# Altium schematic symbol library GD32 MCU.SchLib: 107 symbols (part 2 of 3)
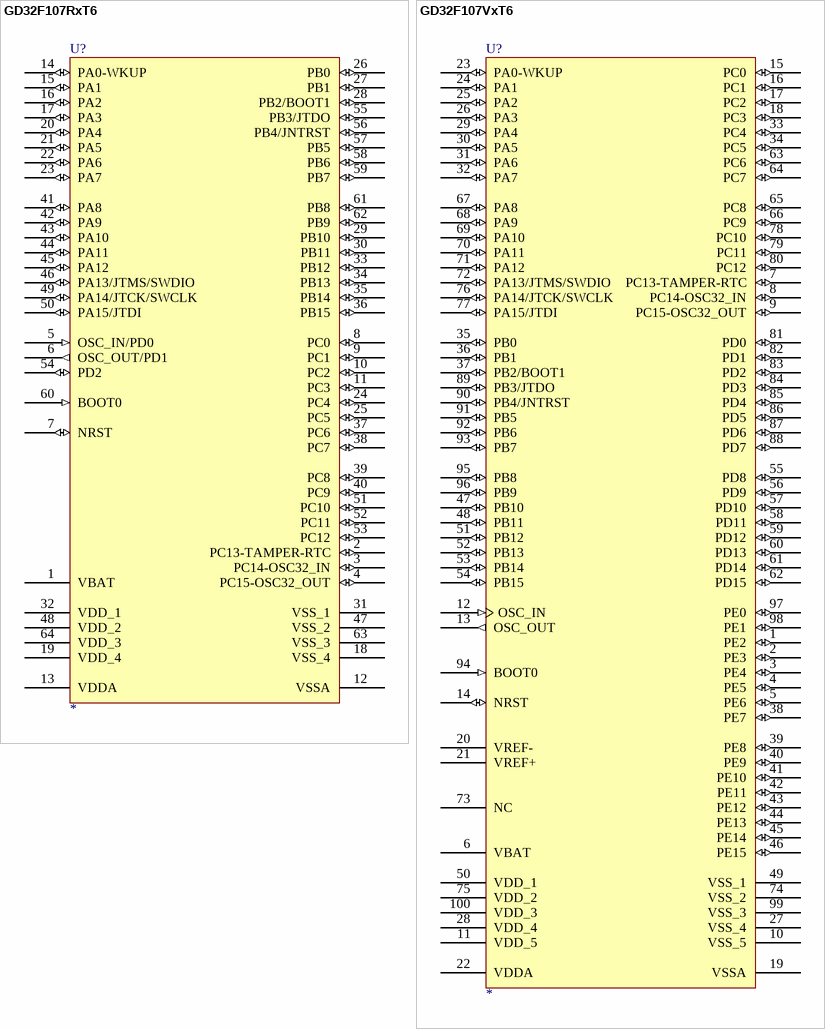
[diagram p34: symbols GD32F107RxT6 to GD32F107VxT6]

## GD32F107VxT6
designator U?
Published: *; DatasheetVersion: *; PackageVersion: *; PackageReference: *; Publisher: *; PackageDescription: *; ComponentLink1Description: *; ComponentLink1URL: *; ComponentLink2Description: *; ComponentLink2URL: *
footprint LQFP-100
pins: 1 PE2 (io), 2 PE3 (io), 3 PE4 (io), 4 PE5 (io), 5 PE6 (io), 6 VBAT (power), 7 PC13-TAMPER-RTC (io), 8 PC14-OSC32_IN (io), 9 PC15-OSC32_OUT (io), 10 VSS_5 (power), 11 VDD_5 (power), 12 OSC_IN (in), 13 OSC_OUT (out), 14 NRST (io), 15 PC0 (io), 16 PC1 (io), 17 PC2 (io), 18 PC3 (io), 19 VSSA (power), 20 VREF- (power), 21 VREF+ (power), 22 VDDA (power), 23 PA0-WKUP (io), 24 PA1 (io), 25 PA2 (io), 26 PA3 (io), 27 VSS_4 (power), 28 VDD_4 (power), 29 PA4 (io), 30 PA5 (io), 31 PA6 (io), 32 PA7 (io), 33 PC4 (io), 34 PC5 (io), 35 PB0 (io), 36 PB1 (io), 37 PB2/BOOT1 (io), 38 PE7 (io), 39 PE8 (io), 40 PE9 (io), 41 PE10 (io), 42 PE11 (io), 43 PE12 (io), 44 PE13 (io), 45 PE14 (io), 46 PE15 (io), 47 PB10 (io), 48 PB11 (io), 49 VSS_1 (power), 50 VDD_1 (power), 51 PB12 (io), 52 PB13 (io), 53 PB14 (io), 54 PB15 (io), 55 PD8 (io), 56 PD9 (io), 57 PD10 (io), 58 PD11 (io), 59 PD12 (io), 60 PD13 (io), 61 PD14 (io), 62 PD15 (io), 63 PC6 (io), 64 PC7 (io), 65 PC8 (io), 66 PC9 (io), 67 PA8 (io), 68 PA9 (io), 69 PA10 (io), 70 PA11 (io), 71 PA12 (io), 72 PA13/JTMS/SWDIO (io), 73 NC, 74 VSS_2 (power), 75 VDD_2 (power), 76 PA14/JTCK/SWCLK (io), 77 PA15/JTDI (io), 78 PC10 (io), 79 PC11 (io), 80 PC12 (io), 81 PD0 (io), 82 PD1 (io), 83 PD2 (io), 84 PD3 (io), 85 PD4 (io), 86 PD5 (io), 87 PD6 (io), 88 PD7 (io), 89 PB3/JTDO (io), 90 PB4/JNTRST (io), 91 PB5 (io), 92 PB6 (io), 93 PB7 (io), 94 BOOT0 (in), 95 PB8 (io), 96 PB9 (io), 97 PE0 (io), 98 PE1 (io), 99 VSS_3 (power), 100 VDD_3 (power)
2 alternate drawings of the same symbol

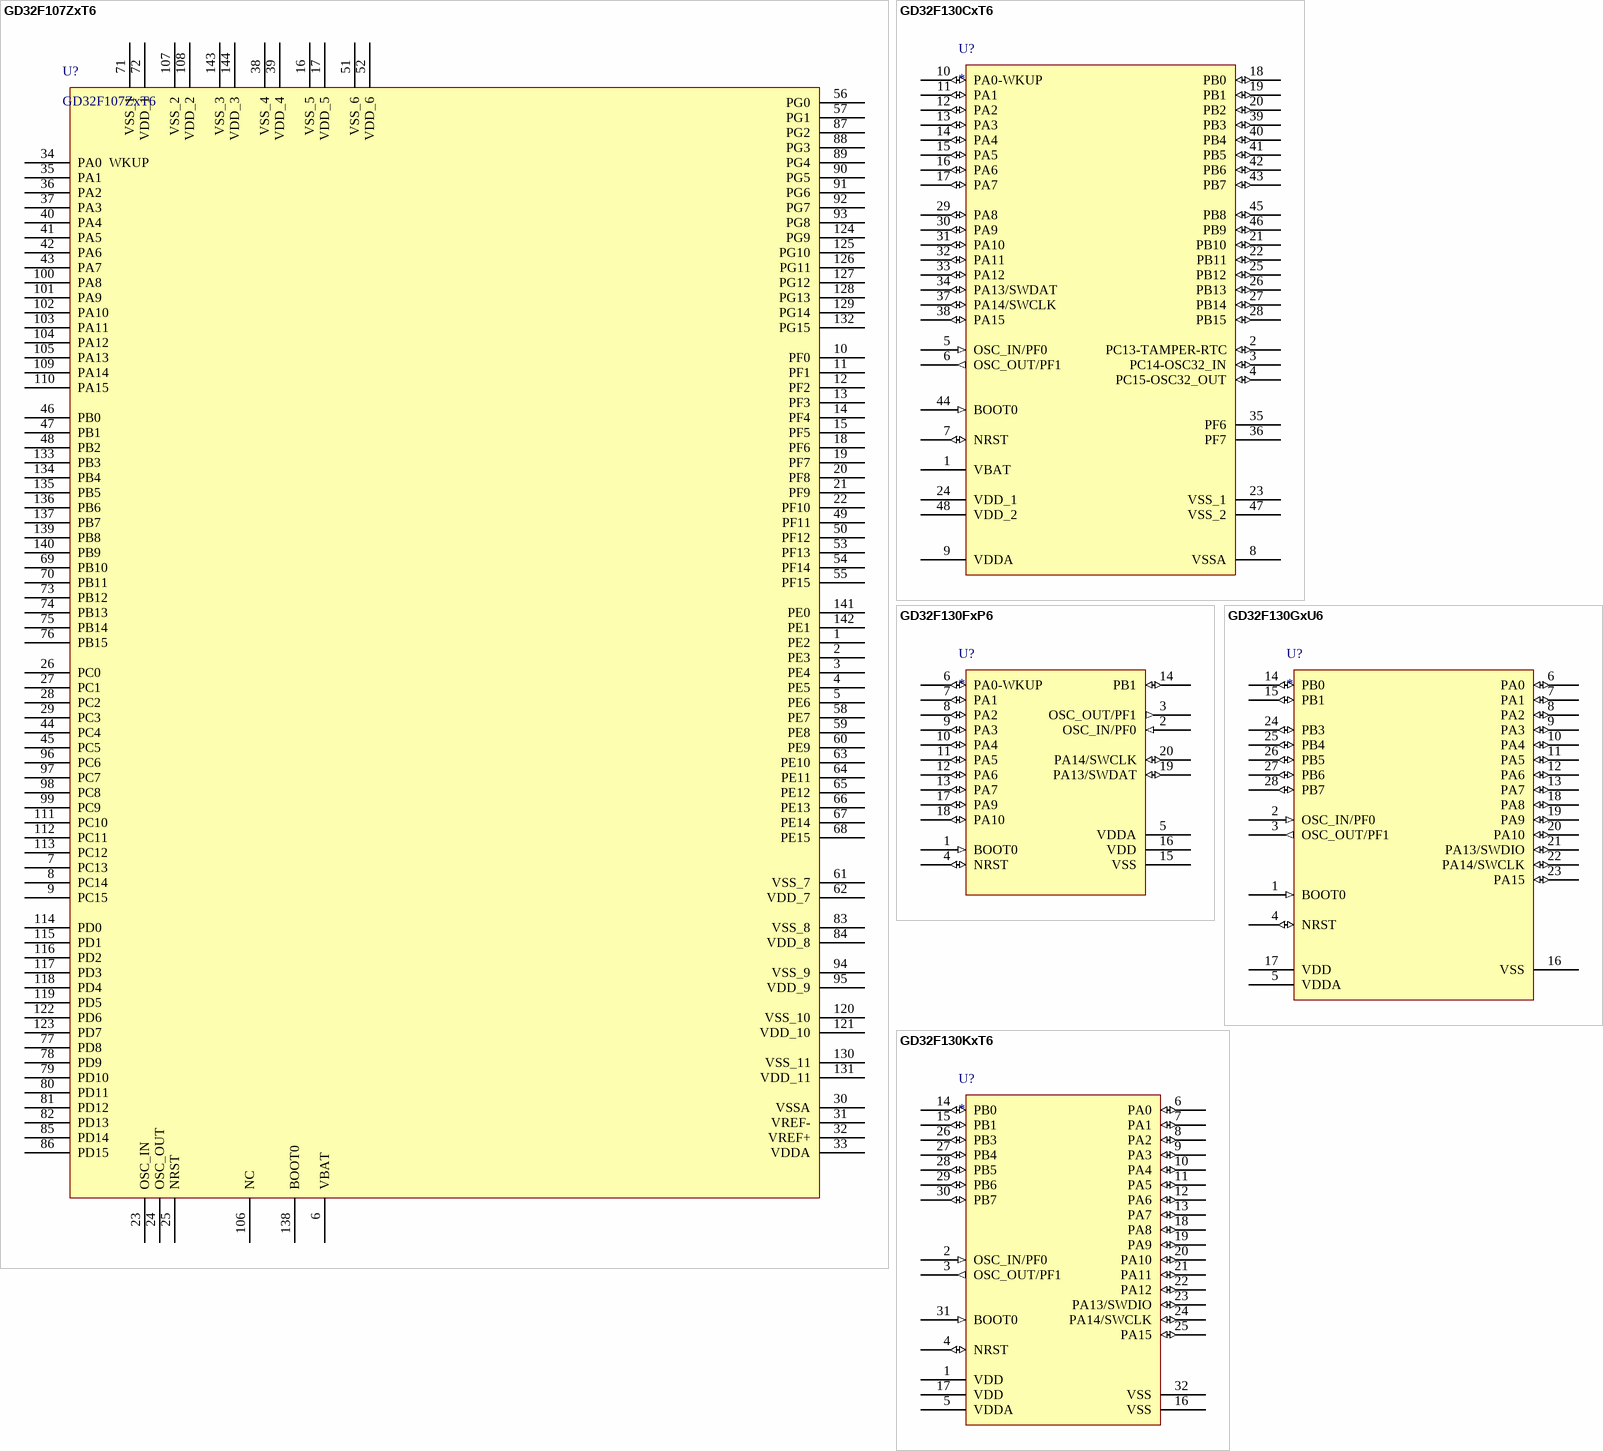
[diagram p12: symbols GD32F107ZxT6 to GD32F130KxT6]

## GD32F107ZxT6
designator U?
footprint LQFP144
pins: 1 PE2, 2 PE3, 3 PE4, 4 PE5, 5 PE6, 6 VBAT, 7 PC13, 8 PC14, 9 PC15, 10 PF0, 11 PF1, 12 PF2, 13 PF3, 14 PF4, 15 PF5, 16 VSS_5, 17 VDD_5, 18 PF6, 19 PF7, 20 PF8, 21 PF9, 22 PF10, 23 OSC_IN, 24 OSC_OUT, 25 NRST, 26 PC0, 27 PC1, 28 PC2, 29 PC3, 30 VSSA, 31 VREF-, 32 VREF+, 33 VDDA, 34 PA0  WKUP , 35 PA1, 36 PA2, 37 PA3 , 38 VSS_4, 39 VDD_4, 40 PA4, 41 PA5, 42 PA6, 43 PA7, 44 PC4, 45 PC5, 46 PB0, 47 PB1, 48 PB2, 49 PF11, 50 PF12, 51 VSS_6, 52 VDD_6, 53 PF13, 54 PF14, 55 PF15, 56 PG0, 57 PG1, 58 PE7, 59 PE8, 60 PE9, 61 VSS_7, 62 VDD_7, 63 PE10, 64 PE11, 65 PE12, 66 PE13, 67 PE14, 68 PE15, 69 PB10, 70 PB11, 71 VSS_1, 72 VDD_1, 73 PB12, 74 PB13, 75 PB14, 76 PB15, 77 PD8, 78 PD9, 79 PD10, 80 PD11, 81 PD12, 82 PD13, 83 VSS_8, 84 VDD_8, 85 PD14, 86 PD15, 87 PG2, 88 PG3, 89 PG4, 90 PG5, 91 PG6, 92 PG7, 93 PG8, 94 VSS_9, 95 VDD_9, 96 PC6, 97 PC7, 98 PC8, 99 PC9, 100 PA8, 101 PA9, 102 PA10, 103 PA11, 104 PA12, 105 PA13, 106 NC, 107 VSS_2, 108 VDD_2, 109 PA14, 110 PA15, 111 PC10, 112 PC11, 113 PC12, 114 PD0, 115 PD1, 116 PD2, 117 PD3, 118 PD4, 119 PD5, 120 VSS_10, 121 VDD_10, 122 PD6, 123 PD7, 124 PG9, 125 PG10, 126 PG11, 127 PG12, 128 PG13, 129 PG14, 130 VSS_11, 131 VDD_11, 132 PG15, 133 PB3, 134 PB4, 135 PB5, 136 PB6, 137 PB7, 138 BOOT0, 139 PB8, 140 PB9, 141 PE0, 142 PE1, 143 VSS_3, 144 VDD_3

## GD32F130CxT6
designator U?
footprint LQFP-48
pins: 1 VBAT (power), 2 PC13-TAMPER-RTC (io), 3 PC14-OSC32_IN (io), 4 PC15-OSC32_OUT (io), 5 OSC_IN/PF0 (in), 6 OSC_OUT/PF1 (out), 7 NRST (io), 8 VSSA (power), 9 VDDA (power), 10 PA0-WKUP (io), 11 PA1 (io), 12 PA2 (io), 13 PA3 (io), 14 PA4 (io), 15 PA5 (io), 16 PA6 (io), 17 PA7 (io), 18 PB0 (io), 19 PB1 (io), 20 PB2 (io), 21 PB10 (io), 22 PB11 (io), 23 VSS_1 (power), 24 VDD_1 (power), 25 PB12 (io), 26 PB13 (io), 27 PB14 (io), 28 PB15 (io), 29 PA8 (io), 30 PA9 (io), 31 PA10 (io), 32 PA11 (io), 33 PA12 (io), 34 PA13/SWDAT (io), 35 PF6 (power), 36 PF7 (power), 37 PA14/SWCLK (io), 38 PA15 (io), 39 PB3 (io), 40 PB4 (io), 41 PB5 (io), 42 PB6 (io), 43 PB7 (io), 44 BOOT0 (in), 45 PB8 (io), 46 PB9 (io), 47 VSS_2 (power), 48 VDD_2 (power)

## GD32F130FxP6
designator U?
pins: 1 BOOT0 (in), 2 OSC_IN/PF0 (in), 3 OSC_OUT/PF1 (out), 4 NRST (io), 5 VDDA (power), 6 PA0-WKUP (io), 7 PA1 (io), 8 PA2 (io), 9 PA3 (io), 10 PA4 (io), 11 PA5 (io), 12 PA6 (io), 13 PA7 (io), 14 PB1 (io), 15 VSS (power), 16 VDD (power), 17 PA9 (io), 18 PA10 (io), 19 PA13/SWDAT (io), 20 PA14/SWCLK (io)

## GD32F130GxU6
designator U?
footprint QFN28
pins: 1 BOOT0 (in), 2 OSC_IN/PF0 (in), 3 OSC_OUT/PF1 (out), 4 NRST (io), 5 VDDA (power), 6 PA0 (io), 7 PA1 (io), 8 PA2 (io), 9 PA3 (io), 10 PA4 (io), 11 PA5 (io), 12 PA6 (io), 13 PA7 (io), 14 PB0 (io), 15 PB1 (io), 16 VSS (power), 17 VDD (power), 18 PA8 (io), 19 PA9 (io), 20 PA10 (io), 21 PA13/SWDIO (io), 22 PA14/SWCLK (io), 23 PA15 (io), 24 PB3 (io), 25 PB4 (io), 26 PB5 (io), 27 PB6 (io), 28 PB7 (io)

## GD32F130KxT6
designator U?
footprint qfn28
footprint lqfp32
pins: 1 VDD (power), 2 OSC_IN/PF0 (in), 3 OSC_OUT/PF1 (out), 4 NRST (io), 5 VDDA (power), 6 PA0 (io), 7 PA1 (io), 8 PA2 (io), 9 PA3 (io), 10 PA4 (io), 11 PA5 (io), 12 PA6 (io), 13 PA7 (io), 14 PB0 (io), 15 PB1 (io), 16 VSS (power), 17 VDD (power), 18 PA8 (io), 19 PA9 (io), 20 PA10 (io), 21 PA11 (io), 22 PA12 (io), 23 PA13/SWDIO (io), 24 PA14/SWCLK (io), 25 PA15 (io), 26 PB3 (io), 27 PB4 (io), 28 PB5 (io), 29 PB6 (io), 30 PB7 (io), 31 BOOT0 (in), 32 VSS (power)

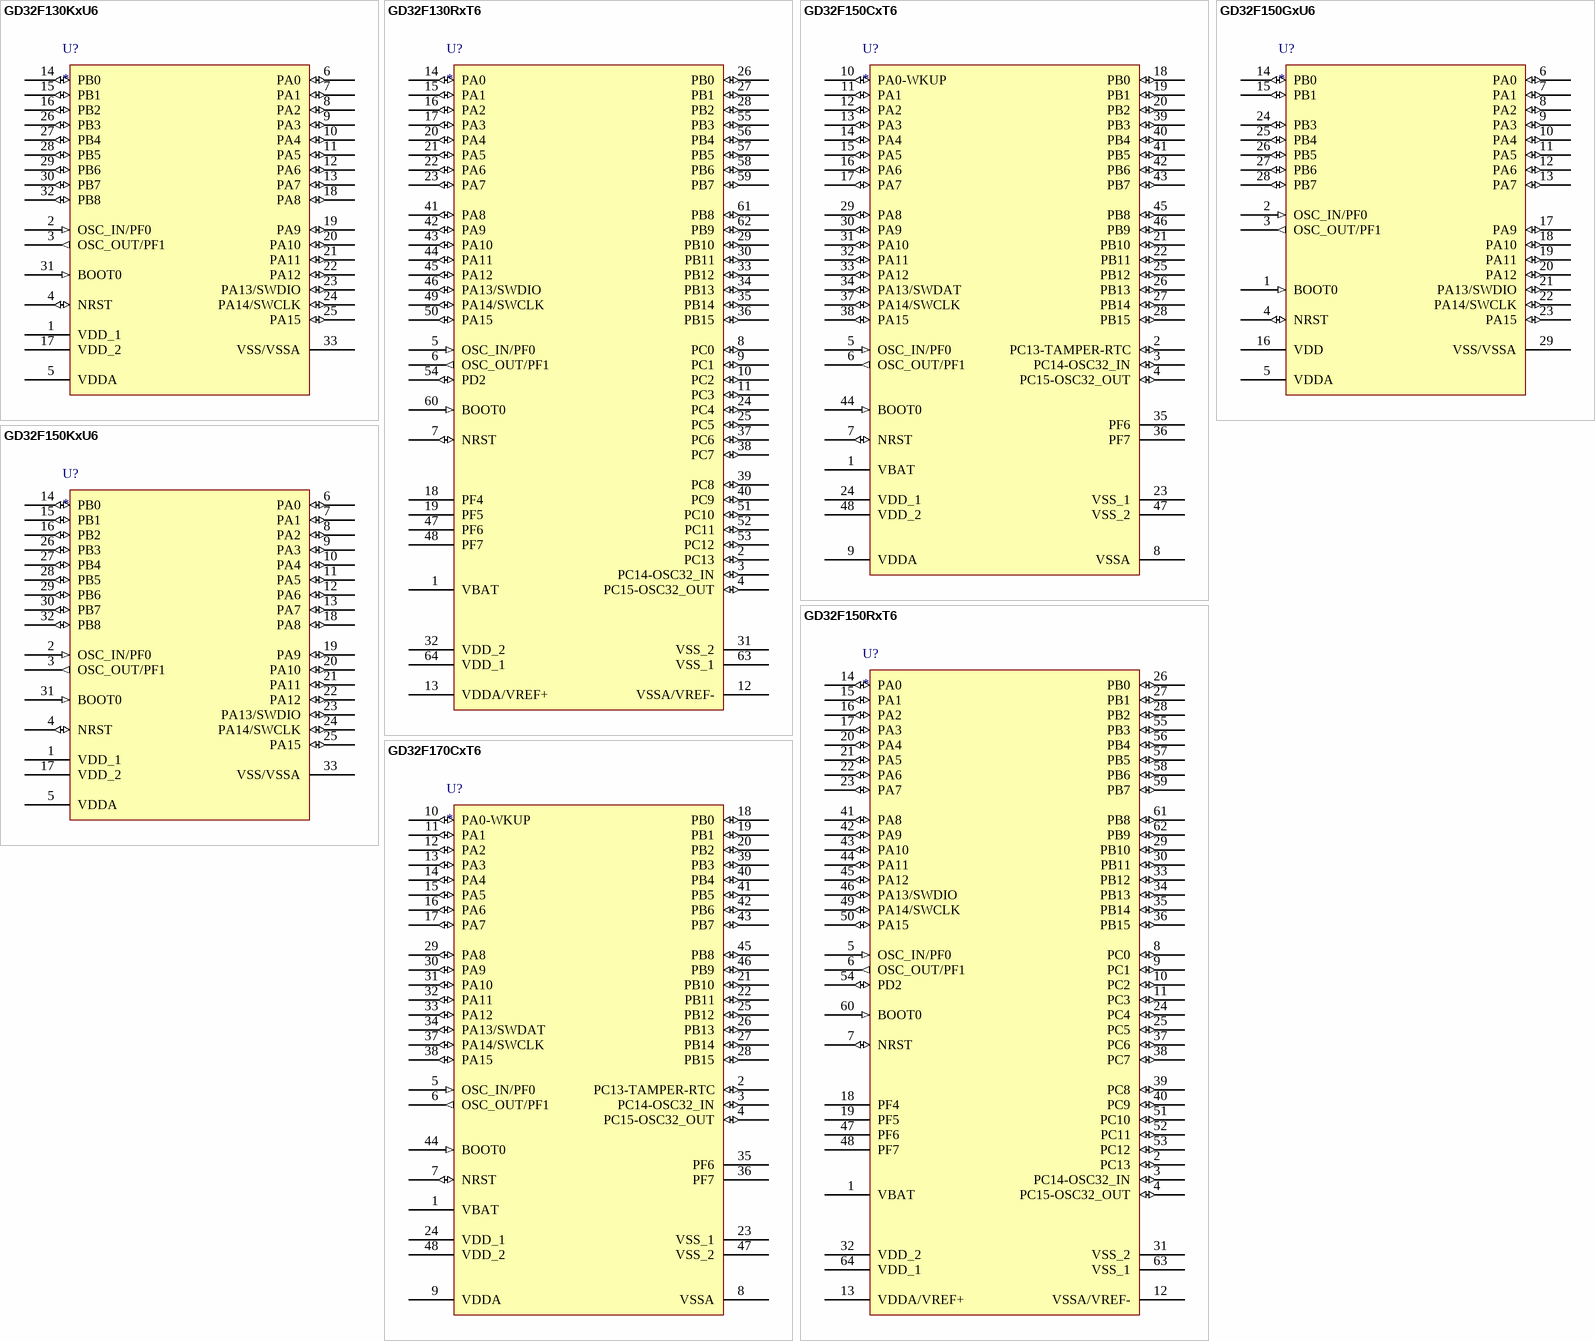
[diagram p13: symbols GD32F130KxU6 to GD32F170CxT6]

## GD32F130KxU6
designator U?
footprint qfn28
footprint QFN32 (Footprint not found)
pins: 1 VDD_1 (power), 2 OSC_IN/PF0 (in), 3 OSC_OUT/PF1 (out), 4 NRST (io), 5 VDDA (power), 6 PA0 (io), 7 PA1 (io), 8 PA2 (io), 9 PA3 (io), 10 PA4 (io), 11 PA5 (io), 12 PA6 (io), 13 PA7 (io), 14 PB0 (io), 15 PB1 (io), 16 PB2 (io), 17 VDD_2 (power), 18 PA8 (io), 19 PA9 (io), 20 PA10 (io), 21 PA11 (io), 22 PA12 (io), 23 PA13/SWDIO (io), 24 PA14/SWCLK (io), 25 PA15 (io), 26 PB3 (io), 27 PB4 (io), 28 PB5 (io), 29 PB6 (io), 30 PB7 (io), 31 BOOT0 (in), 32 PB8 (io), 33 VSS/VSSA (power)

## GD32F130RxT6
designator U?
footprint LQFP-64
pins: 1 VBAT (power), 2 PC13 (io), 3 PC14-OSC32_IN (io), 4 PC15-OSC32_OUT (io), 5 OSC_IN/PF0 (in), 6 OSC_OUT/PF1 (out), 7 NRST (io), 8 PC0 (io), 9 PC1 (io), 10 PC2 (io), 11 PC3 (io), 12 VSSA/VREF- (power), 13 VDDA/VREF+ (power), 14 PA0 (io), 15 PA1 (io), 16 PA2 (io), 17 PA3 (io), 18 PF4 (power), 19 PF5 (power), 20 PA4 (io), 21 PA5 (io), 22 PA6 (io), 23 PA7 (io), 24 PC4 (io), 25 PC5 (io), 26 PB0 (io), 27 PB1 (io), 28 PB2 (io), 29 PB10 (io), 30 PB11 (io), 31 VSS_2 (power), 32 VDD_2 (power), 33 PB12 (io), 34 PB13 (io), 35 PB14 (io), 36 PB15 (io), 37 PC6 (io), 38 PC7 (io), 39 PC8 (io), 40 PC9 (io), 41 PA8 (io), 42 PA9 (io), 43 PA10 (io), 44 PA11 (io), 45 PA12 (io), 46 PA13/SWDIO (io), 47 PF6 (power), 48 PF7 (power), 49 PA14/SWCLK (io), 50 PA15 (io), 51 PC10 (io), 52 PC11 (io), 53 PC12 (io), 54 PD2 (io), 55 PB3 (io), 56 PB4 (io), 57 PB5 (io), 58 PB6 (io), 59 PB7 (io), 60 BOOT0 (in), 61 PB8 (io), 62 PB9 (io), 63 VSS_1 (power), 64 VDD_1 (power)

## GD32F150CxT6
designator U?
footprint LQFP-48
pins: 1 VBAT (power), 2 PC13-TAMPER-RTC (io), 3 PC14-OSC32_IN (io), 4 PC15-OSC32_OUT (io), 5 OSC_IN/PF0 (in), 6 OSC_OUT/PF1 (out), 7 NRST (io), 8 VSSA (power), 9 VDDA (power), 10 PA0-WKUP (io), 11 PA1 (io), 12 PA2 (io), 13 PA3 (io), 14 PA4 (io), 15 PA5 (io), 16 PA6 (io), 17 PA7 (io), 18 PB0 (io), 19 PB1 (io), 20 PB2 (io), 21 PB10 (io), 22 PB11 (io), 23 VSS_1 (power), 24 VDD_1 (power), 25 PB12 (io), 26 PB13 (io), 27 PB14 (io), 28 PB15 (io), 29 PA8 (io), 30 PA9 (io), 31 PA10 (io), 32 PA11 (io), 33 PA12 (io), 34 PA13/SWDAT (io), 35 PF6 (power), 36 PF7 (power), 37 PA14/SWCLK (io), 38 PA15 (io), 39 PB3 (io), 40 PB4 (io), 41 PB5 (io), 42 PB6 (io), 43 PB7 (io), 44 BOOT0 (in), 45 PB8 (io), 46 PB9 (io), 47 VSS_2 (power), 48 VDD_2 (power)

## GD32F150GxU6
designator U?
footprint qfn28
pins: 1 BOOT0 (in), 2 OSC_IN/PF0 (in), 3 OSC_OUT/PF1 (out), 4 NRST (io), 5 VDDA (power), 6 PA0 (io), 7 PA1 (io), 8 PA2 (io), 9 PA3 (io), 10 PA4 (io), 11 PA5 (io), 12 PA6 (io), 13 PA7 (io), 14 PB0 (io), 15 PB1 (io), 16 VDD (power), 17 PA9 (io), 18 PA10 (io), 19 PA11 (io), 20 PA12 (io), 21 PA13/SWDIO (io), 22 PA14/SWCLK (io), 23 PA15 (io), 24 PB3 (io), 25 PB4 (io), 26 PB5 (io), 27 PB6 (io), 28 PB7 (io), 29 VSS/VSSA (power)

## GD32F150KxU6
designator U?
footprint qfn28
footprint QFN32 (Footprint not found)
pins: 1 VDD_1 (power), 2 OSC_IN/PF0 (in), 3 OSC_OUT/PF1 (out), 4 NRST (io), 5 VDDA (power), 6 PA0 (io), 7 PA1 (io), 8 PA2 (io), 9 PA3 (io), 10 PA4 (io), 11 PA5 (io), 12 PA6 (io), 13 PA7 (io), 14 PB0 (io), 15 PB1 (io), 16 PB2 (io), 17 VDD_2 (power), 18 PA8 (io), 19 PA9 (io), 20 PA10 (io), 21 PA11 (io), 22 PA12 (io), 23 PA13/SWDIO (io), 24 PA14/SWCLK (io), 25 PA15 (io), 26 PB3 (io), 27 PB4 (io), 28 PB5 (io), 29 PB6 (io), 30 PB7 (io), 31 BOOT0 (in), 32 PB8 (io), 33 VSS/VSSA (power)

## GD32F150RxT6
designator U?
footprint LQFP-64
pins: 1 VBAT (power), 2 PC13 (io), 3 PC14-OSC32_IN (io), 4 PC15-OSC32_OUT (io), 5 OSC_IN/PF0 (in), 6 OSC_OUT/PF1 (out), 7 NRST (io), 8 PC0 (io), 9 PC1 (io), 10 PC2 (io), 11 PC3 (io), 12 VSSA/VREF- (power), 13 VDDA/VREF+ (power), 14 PA0 (io), 15 PA1 (io), 16 PA2 (io), 17 PA3 (io), 18 PF4 (power), 19 PF5 (power), 20 PA4 (io), 21 PA5 (io), 22 PA6 (io), 23 PA7 (io), 24 PC4 (io), 25 PC5 (io), 26 PB0 (io), 27 PB1 (io), 28 PB2 (io), 29 PB10 (io), 30 PB11 (io), 31 VSS_2 (power), 32 VDD_2 (power), 33 PB12 (io), 34 PB13 (io), 35 PB14 (io), 36 PB15 (io), 37 PC6 (io), 38 PC7 (io), 39 PC8 (io), 40 PC9 (io), 41 PA8 (io), 42 PA9 (io), 43 PA10 (io), 44 PA11 (io), 45 PA12 (io), 46 PA13/SWDIO (io), 47 PF6 (power), 48 PF7 (power), 49 PA14/SWCLK (io), 50 PA15 (io), 51 PC10 (io), 52 PC11 (io), 53 PC12 (io), 54 PD2 (io), 55 PB3 (io), 56 PB4 (io), 57 PB5 (io), 58 PB6 (io), 59 PB7 (io), 60 BOOT0 (in), 61 PB8 (io), 62 PB9 (io), 63 VSS_1 (power), 64 VDD_1 (power)

## GD32F170CxT6
designator U?
footprint LQFP-48
pins: 1 VBAT (power), 2 PC13-TAMPER-RTC (io), 3 PC14-OSC32_IN (io), 4 PC15-OSC32_OUT (io), 5 OSC_IN/PF0 (in), 6 OSC_OUT/PF1 (out), 7 NRST (io), 8 VSSA (power), 9 VDDA (power), 10 PA0-WKUP (io), 11 PA1 (io), 12 PA2 (io), 13 PA3 (io), 14 PA4 (io), 15 PA5 (io), 16 PA6 (io), 17 PA7 (io), 18 PB0 (io), 19 PB1 (io), 20 PB2 (io), 21 PB10 (io), 22 PB11 (io), 23 VSS_1 (power), 24 VDD_1 (power), 25 PB12 (io), 26 PB13 (io), 27 PB14 (io), 28 PB15 (io), 29 PA8 (io), 30 PA9 (io), 31 PA10 (io), 32 PA11 (io), 33 PA12 (io), 34 PA13/SWDAT (io), 35 PF6 (power), 36 PF7 (power), 37 PA14/SWCLK (io), 38 PA15 (io), 39 PB3 (io), 40 PB4 (io), 41 PB5 (io), 42 PB6 (io), 43 PB7 (io), 44 BOOT0 (in), 45 PB8 (io), 46 PB9 (io), 47 VSS_2 (power), 48 VDD_2 (power)

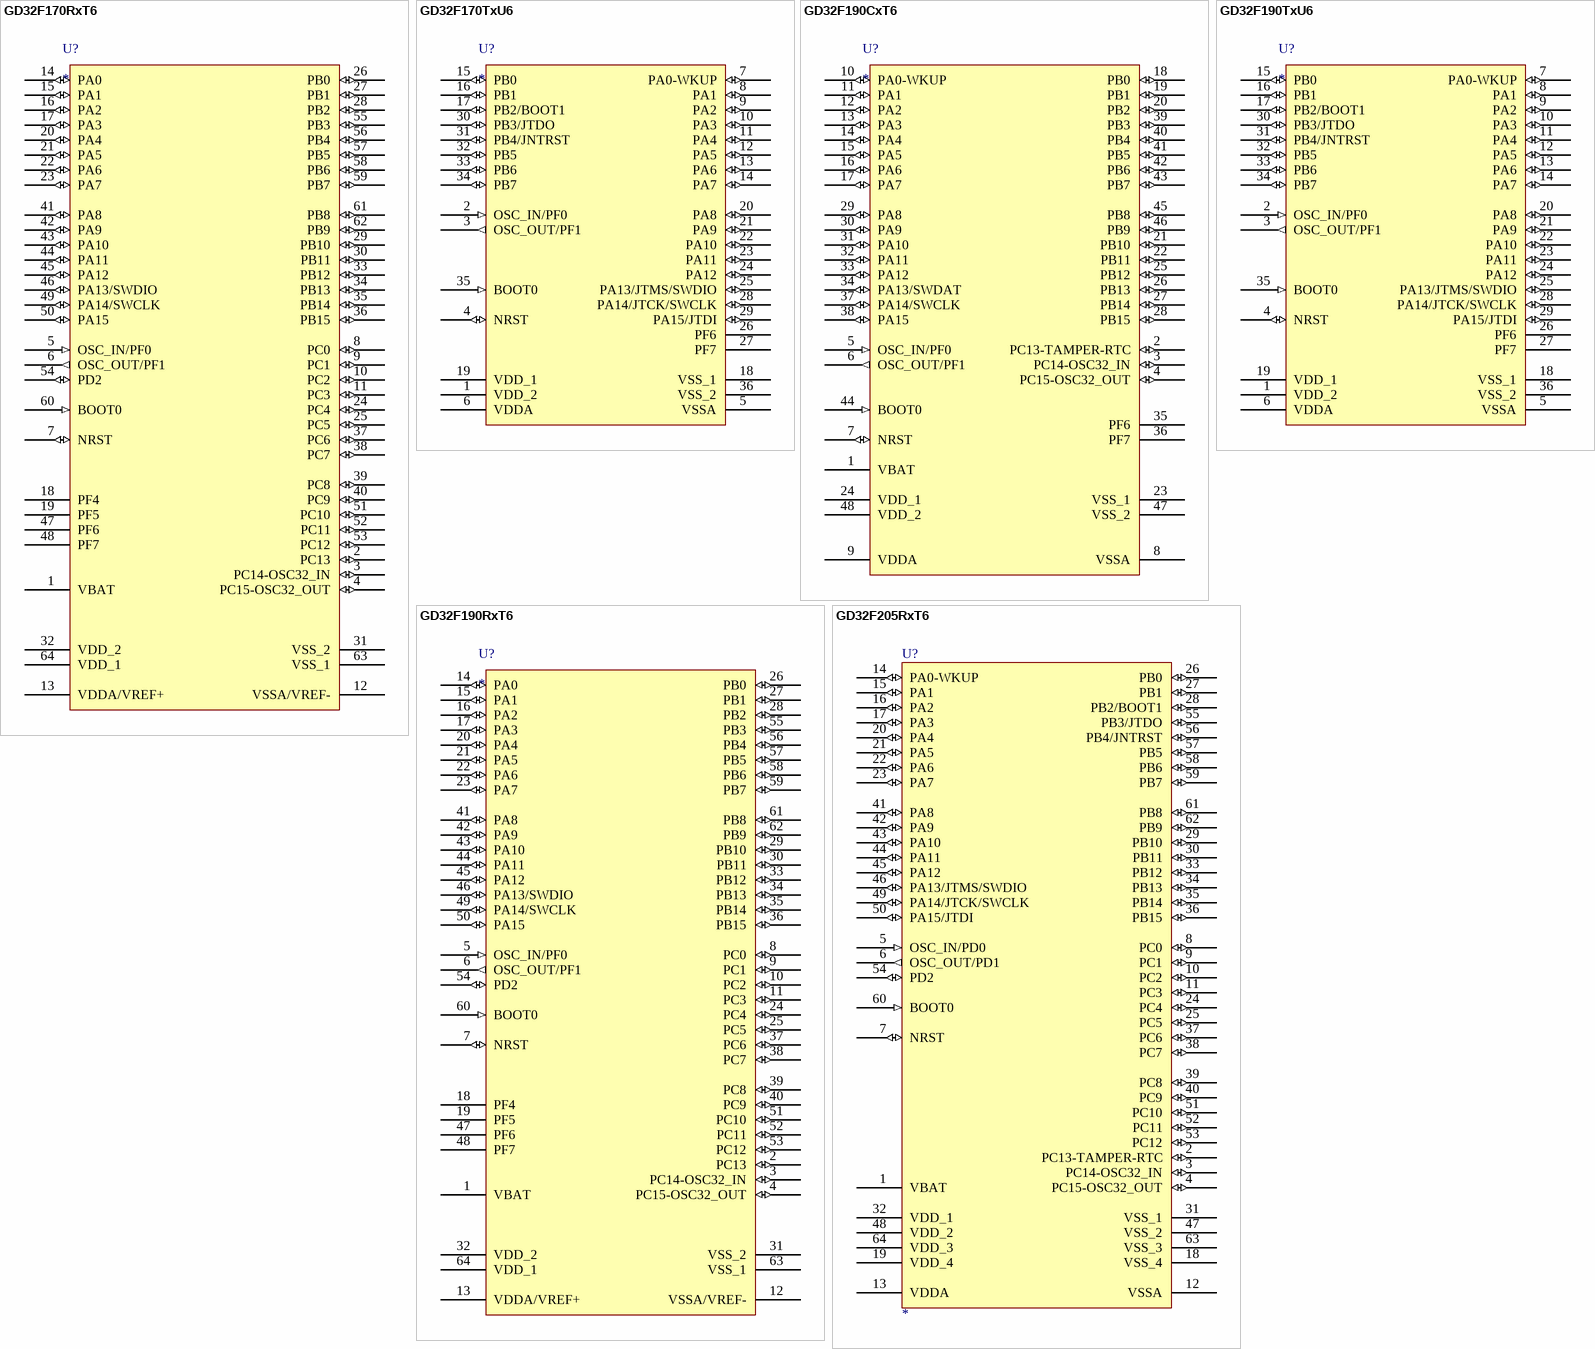
[diagram p14: symbols GD32F170RxT6 to GD32F205RxT6]

## GD32F170RxT6
designator U?
footprint LQFP-64
pins: 1 VBAT (power), 2 PC13 (io), 3 PC14-OSC32_IN (io), 4 PC15-OSC32_OUT (io), 5 OSC_IN/PF0 (in), 6 OSC_OUT/PF1 (out), 7 NRST (io), 8 PC0 (io), 9 PC1 (io), 10 PC2 (io), 11 PC3 (io), 12 VSSA/VREF- (power), 13 VDDA/VREF+ (power), 14 PA0 (io), 15 PA1 (io), 16 PA2 (io), 17 PA3 (io), 18 PF4 (power), 19 PF5 (power), 20 PA4 (io), 21 PA5 (io), 22 PA6 (io), 23 PA7 (io), 24 PC4 (io), 25 PC5 (io), 26 PB0 (io), 27 PB1 (io), 28 PB2 (io), 29 PB10 (io), 30 PB11 (io), 31 VSS_2 (power), 32 VDD_2 (power), 33 PB12 (io), 34 PB13 (io), 35 PB14 (io), 36 PB15 (io), 37 PC6 (io), 38 PC7 (io), 39 PC8 (io), 40 PC9 (io), 41 PA8 (io), 42 PA9 (io), 43 PA10 (io), 44 PA11 (io), 45 PA12 (io), 46 PA13/SWDIO (io), 47 PF6 (power), 48 PF7 (power), 49 PA14/SWCLK (io), 50 PA15 (io), 51 PC10 (io), 52 PC11 (io), 53 PC12 (io), 54 PD2 (io), 55 PB3 (io), 56 PB4 (io), 57 PB5 (io), 58 PB6 (io), 59 PB7 (io), 60 BOOT0 (in), 61 PB8 (io), 62 PB9 (io), 63 VSS_1 (power), 64 VDD_1 (power)

## GD32F170TxU6
designator U?
footprint QFN36
pins: 1 VDD_2 (power), 2 OSC_IN/PF0 (in), 3 OSC_OUT/PF1 (out), 4 NRST (io), 5 VSSA (power), 6 VDDA (power), 7 PA0-WKUP (io), 8 PA1 (io), 9 PA2 (io), 10 PA3 (io), 11 PA4 (io), 12 PA5 (io), 13 PA6 (io), 14 PA7 (io), 15 PB0 (io), 16 PB1 (io), 17 PB2/BOOT1 (io), 18 VSS_1 (power), 19 VDD_1 (power), 20 PA8 (io), 21 PA9 (io), 22 PA10 (io), 23 PA11 (io), 24 PA12 (io), 25 PA13/JTMS/SWDIO (io), 26 PF6 (power), 27 PF7 (power), 28 PA14/JTCK/SWCLK (io), 29 PA15/JTDI (io), 30 PB3/JTDO (io), 31 PB4/JNTRST (io), 32 PB5 (io), 33 PB6 (io), 34 PB7 (io), 35 BOOT0 (in), 36 VSS_2 (power)

## GD32F190CxT6
designator U?
footprint LQFP-48
pins: 1 VBAT (power), 2 PC13-TAMPER-RTC (io), 3 PC14-OSC32_IN (io), 4 PC15-OSC32_OUT (io), 5 OSC_IN/PF0 (in), 6 OSC_OUT/PF1 (out), 7 NRST (io), 8 VSSA (power), 9 VDDA (power), 10 PA0-WKUP (io), 11 PA1 (io), 12 PA2 (io), 13 PA3 (io), 14 PA4 (io), 15 PA5 (io), 16 PA6 (io), 17 PA7 (io), 18 PB0 (io), 19 PB1 (io), 20 PB2 (io), 21 PB10 (io), 22 PB11 (io), 23 VSS_1 (power), 24 VDD_1 (power), 25 PB12 (io), 26 PB13 (io), 27 PB14 (io), 28 PB15 (io), 29 PA8 (io), 30 PA9 (io), 31 PA10 (io), 32 PA11 (io), 33 PA12 (io), 34 PA13/SWDAT (io), 35 PF6 (power), 36 PF7 (power), 37 PA14/SWCLK (io), 38 PA15 (io), 39 PB3 (io), 40 PB4 (io), 41 PB5 (io), 42 PB6 (io), 43 PB7 (io), 44 BOOT0 (in), 45 PB8 (io), 46 PB9 (io), 47 VSS_2 (power), 48 VDD_2 (power)

## GD32F190RxT6
designator U?
footprint LQFP-64
pins: 1 VBAT (power), 2 PC13 (io), 3 PC14-OSC32_IN (io), 4 PC15-OSC32_OUT (io), 5 OSC_IN/PF0 (in), 6 OSC_OUT/PF1 (out), 7 NRST (io), 8 PC0 (io), 9 PC1 (io), 10 PC2 (io), 11 PC3 (io), 12 VSSA/VREF- (power), 13 VDDA/VREF+ (power), 14 PA0 (io), 15 PA1 (io), 16 PA2 (io), 17 PA3 (io), 18 PF4 (power), 19 PF5 (power), 20 PA4 (io), 21 PA5 (io), 22 PA6 (io), 23 PA7 (io), 24 PC4 (io), 25 PC5 (io), 26 PB0 (io), 27 PB1 (io), 28 PB2 (io), 29 PB10 (io), 30 PB11 (io), 31 VSS_2 (power), 32 VDD_2 (power), 33 PB12 (io), 34 PB13 (io), 35 PB14 (io), 36 PB15 (io), 37 PC6 (io), 38 PC7 (io), 39 PC8 (io), 40 PC9 (io), 41 PA8 (io), 42 PA9 (io), 43 PA10 (io), 44 PA11 (io), 45 PA12 (io), 46 PA13/SWDIO (io), 47 PF6 (power), 48 PF7 (power), 49 PA14/SWCLK (io), 50 PA15 (io), 51 PC10 (io), 52 PC11 (io), 53 PC12 (io), 54 PD2 (io), 55 PB3 (io), 56 PB4 (io), 57 PB5 (io), 58 PB6 (io), 59 PB7 (io), 60 BOOT0 (in), 61 PB8 (io), 62 PB9 (io), 63 VSS_1 (power), 64 VDD_1 (power)

## GD32F190TxU6
designator U?
footprint QFN36
pins: 1 VDD_2 (power), 2 OSC_IN/PF0 (in), 3 OSC_OUT/PF1 (out), 4 NRST (io), 5 VSSA (power), 6 VDDA (power), 7 PA0-WKUP (io), 8 PA1 (io), 9 PA2 (io), 10 PA3 (io), 11 PA4 (io), 12 PA5 (io), 13 PA6 (io), 14 PA7 (io), 15 PB0 (io), 16 PB1 (io), 17 PB2/BOOT1 (io), 18 VSS_1 (power), 19 VDD_1 (power), 20 PA8 (io), 21 PA9 (io), 22 PA10 (io), 23 PA11 (io), 24 PA12 (io), 25 PA13/JTMS/SWDIO (io), 26 PF6 (power), 27 PF7 (power), 28 PA14/JTCK/SWCLK (io), 29 PA15/JTDI (io), 30 PB3/JTDO (io), 31 PB4/JNTRST (io), 32 PB5 (io), 33 PB6 (io), 34 PB7 (io), 35 BOOT0 (in), 36 VSS_2 (power)

## GD32F205RxT6
designator U?
Published: *; DatasheetVersion: *; PackageVersion: *; PackageReference: *; Publisher: *; PackageDescription: *; ComponentLink1Description: *; ComponentLink1URL: *; ComponentLink2Description: *; ComponentLink2URL: *
footprint LQFP-64
pins: 1 VBAT (power), 2 PC13-TAMPER-RTC (io), 3 PC14-OSC32_IN (io), 4 PC15-OSC32_OUT (io), 5 OSC_IN/PD0 (in), 6 OSC_OUT/PD1 (out), 7 NRST (io), 8 PC0 (io), 9 PC1 (io), 10 PC2 (io), 11 PC3 (io), 12 VSSA (power), 13 VDDA (power), 14 PA0-WKUP (io), 15 PA1 (io), 16 PA2 (io), 17 PA3 (io), 18 VSS_4 (power), 19 VDD_4 (power), 20 PA4 (io), 21 PA5 (io), 22 PA6 (io), 23 PA7 (io), 24 PC4 (io), 25 PC5 (io), 26 PB0 (io), 27 PB1 (io), 28 PB2/BOOT1 (io), 29 PB10 (io), 30 PB11 (io), 31 VSS_1 (power), 32 VDD_1 (power), 33 PB12 (io), 34 PB13 (io), 35 PB14 (io), 36 PB15 (io), 37 PC6 (io), 38 PC7 (io), 39 PC8 (io), 40 PC9 (io), 41 PA8 (io), 42 PA9 (io), 43 PA10 (io), 44 PA11 (io), 45 PA12 (io), 46 PA13/JTMS/SWDIO (io), 47 VSS_2 (power), 48 VDD_2 (power), 49 PA14/JTCK/SWCLK (io), 50 PA15/JTDI (io), 51 PC10 (io), 52 PC11 (io), 53 PC12 (io), 54 PD2 (io), 55 PB3/JTDO (io), 56 PB4/JNTRST (io), 57 PB5 (io), 58 PB6 (io), 59 PB7 (io), 60 BOOT0 (in), 61 PB8 (io), 62 PB9 (io), 63 VSS_3 (power), 64 VDD_3 (power)
2 alternate drawings of the same symbol

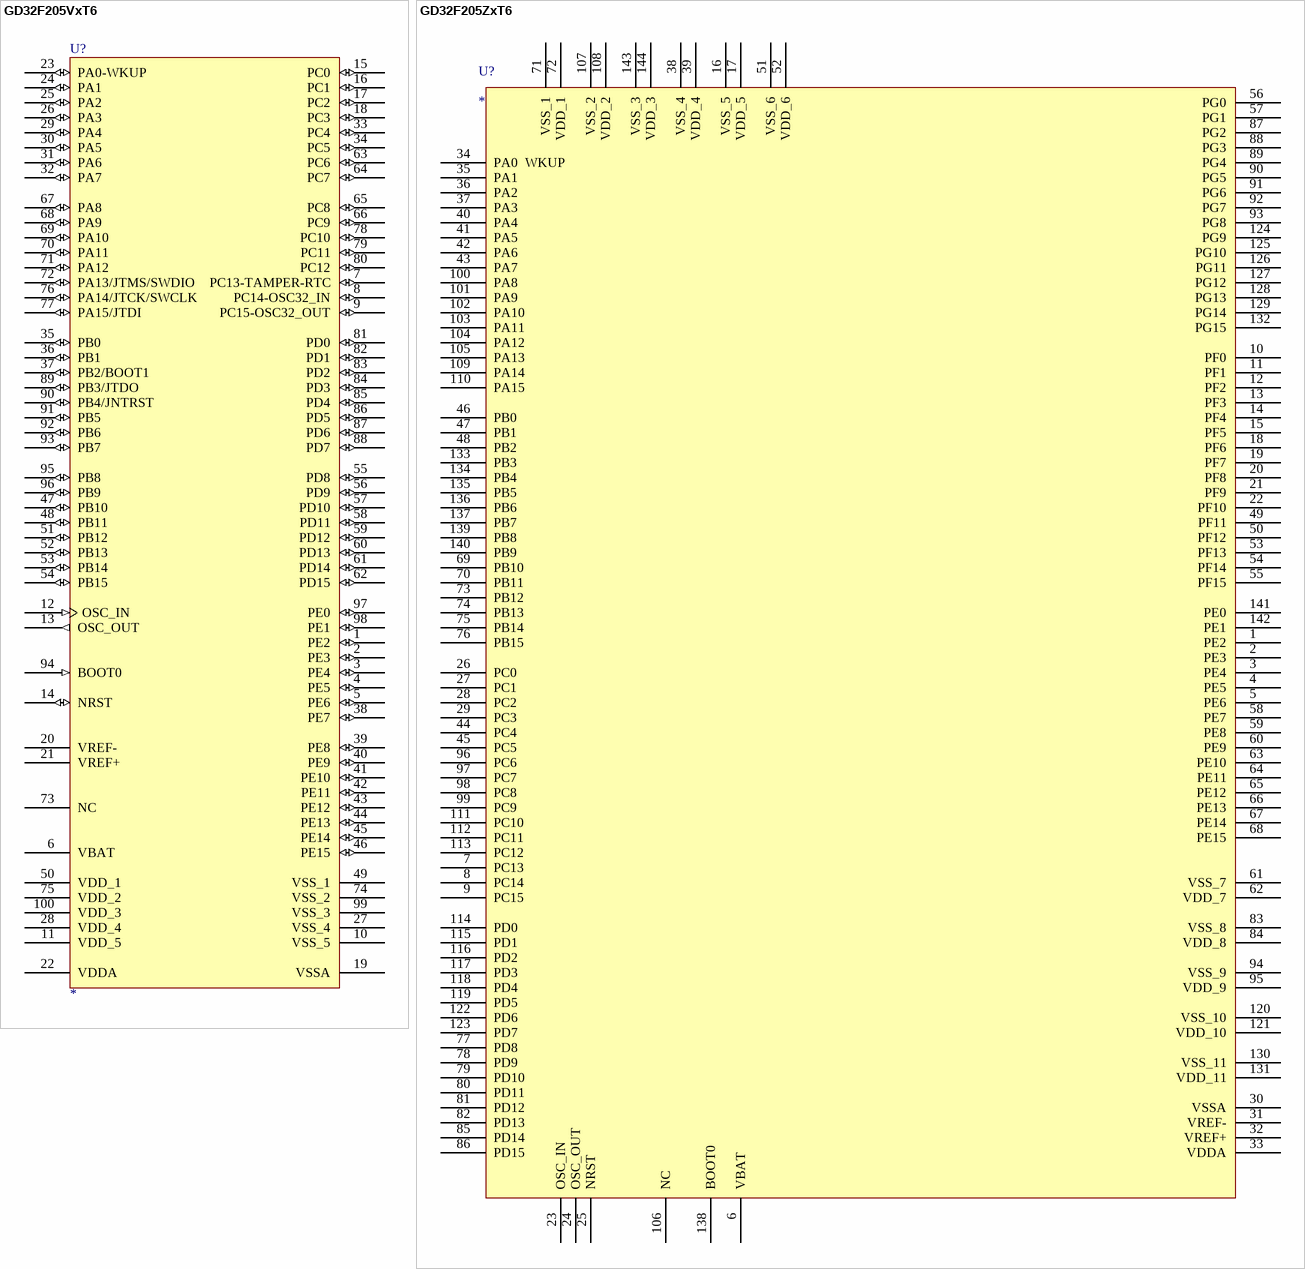
[diagram p15: symbols GD32F205VxT6 to GD32F205ZxT6]

## GD32F205VxT6
designator U?
Published: *; DatasheetVersion: *; PackageVersion: *; PackageReference: *; Publisher: *; PackageDescription: *; ComponentLink1Description: *; ComponentLink1URL: *; ComponentLink2Description: *; ComponentLink2URL: *
footprint LQFP-100
pins: 1 PE2 (io), 2 PE3 (io), 3 PE4 (io), 4 PE5 (io), 5 PE6 (io), 6 VBAT (power), 7 PC13-TAMPER-RTC (io), 8 PC14-OSC32_IN (io), 9 PC15-OSC32_OUT (io), 10 VSS_5 (power), 11 VDD_5 (power), 12 OSC_IN (in), 13 OSC_OUT (out), 14 NRST (io), 15 PC0 (io), 16 PC1 (io), 17 PC2 (io), 18 PC3 (io), 19 VSSA (power), 20 VREF- (power), 21 VREF+ (power), 22 VDDA (power), 23 PA0-WKUP (io), 24 PA1 (io), 25 PA2 (io), 26 PA3 (io), 27 VSS_4 (power), 28 VDD_4 (power), 29 PA4 (io), 30 PA5 (io), 31 PA6 (io), 32 PA7 (io), 33 PC4 (io), 34 PC5 (io), 35 PB0 (io), 36 PB1 (io), 37 PB2/BOOT1 (io), 38 PE7 (io), 39 PE8 (io), 40 PE9 (io), 41 PE10 (io), 42 PE11 (io), 43 PE12 (io), 44 PE13 (io), 45 PE14 (io), 46 PE15 (io), 47 PB10 (io), 48 PB11 (io), 49 VSS_1 (power), 50 VDD_1 (power), 51 PB12 (io), 52 PB13 (io), 53 PB14 (io), 54 PB15 (io), 55 PD8 (io), 56 PD9 (io), 57 PD10 (io), 58 PD11 (io), 59 PD12 (io), 60 PD13 (io), 61 PD14 (io), 62 PD15 (io), 63 PC6 (io), 64 PC7 (io), 65 PC8 (io), 66 PC9 (io), 67 PA8 (io), 68 PA9 (io), 69 PA10 (io), 70 PA11 (io), 71 PA12 (io), 72 PA13/JTMS/SWDIO (io), 73 NC, 74 VSS_2 (power), 75 VDD_2 (power), 76 PA14/JTCK/SWCLK (io), 77 PA15/JTDI (io), 78 PC10 (io), 79 PC11 (io), 80 PC12 (io), 81 PD0 (io), 82 PD1 (io), 83 PD2 (io), 84 PD3 (io), 85 PD4 (io), 86 PD5 (io), 87 PD6 (io), 88 PD7 (io), 89 PB3/JTDO (io), 90 PB4/JNTRST (io), 91 PB5 (io), 92 PB6 (io), 93 PB7 (io), 94 BOOT0 (in), 95 PB8 (io), 96 PB9 (io), 97 PE0 (io), 98 PE1 (io), 99 VSS_3 (power), 100 VDD_3 (power)
2 alternate drawings of the same symbol

## GD32F205ZxT6
designator U?
footprint LQFP144
pins: 1 PE2, 2 PE3, 3 PE4, 4 PE5, 5 PE6, 6 VBAT, 7 PC13, 8 PC14, 9 PC15, 10 PF0, 11 PF1, 12 PF2, 13 PF3, 14 PF4, 15 PF5, 16 VSS_5, 17 VDD_5, 18 PF6, 19 PF7, 20 PF8, 21 PF9, 22 PF10, 23 OSC_IN, 24 OSC_OUT, 25 NRST, 26 PC0, 27 PC1, 28 PC2, 29 PC3, 30 VSSA, 31 VREF-, 32 VREF+, 33 VDDA, 34 PA0  WKUP , 35 PA1, 36 PA2, 37 PA3 , 38 VSS_4, 39 VDD_4, 40 PA4, 41 PA5, 42 PA6, 43 PA7, 44 PC4, 45 PC5, 46 PB0, 47 PB1, 48 PB2, 49 PF11, 50 PF12, 51 VSS_6, 52 VDD_6, 53 PF13, 54 PF14, 55 PF15, 56 PG0, 57 PG1, 58 PE7, 59 PE8, 60 PE9, 61 VSS_7, 62 VDD_7, 63 PE10, 64 PE11, 65 PE12, 66 PE13, 67 PE14, 68 PE15, 69 PB10, 70 PB11, 71 VSS_1, 72 VDD_1, 73 PB12, 74 PB13, 75 PB14, 76 PB15, 77 PD8, 78 PD9, 79 PD10, 80 PD11, 81 PD12, 82 PD13, 83 VSS_8, 84 VDD_8, 85 PD14, 86 PD15, 87 PG2, 88 PG3, 89 PG4, 90 PG5, 91 PG6, 92 PG7, 93 PG8, 94 VSS_9, 95 VDD_9, 96 PC6, 97 PC7, 98 PC8, 99 PC9, 100 PA8, 101 PA9, 102 PA10, 103 PA11, 104 PA12, 105 PA13, 106 NC, 107 VSS_2, 108 VDD_2, 109 PA14, 110 PA15, 111 PC10, 112 PC11, 113 PC12, 114 PD0, 115 PD1, 116 PD2, 117 PD3, 118 PD4, 119 PD5, 120 VSS_10, 121 VDD_10, 122 PD6, 123 PD7, 124 PG9, 125 PG10, 126 PG11, 127 PG12, 128 PG13, 129 PG14, 130 VSS_11, 131 VDD_11, 132 PG15, 133 PB3, 134 PB4, 135 PB5, 136 PB6, 137 PB7, 138 BOOT0, 139 PB8, 140 PB9, 141 PE0, 142 PE1, 143 VSS_3, 144 VDD_3

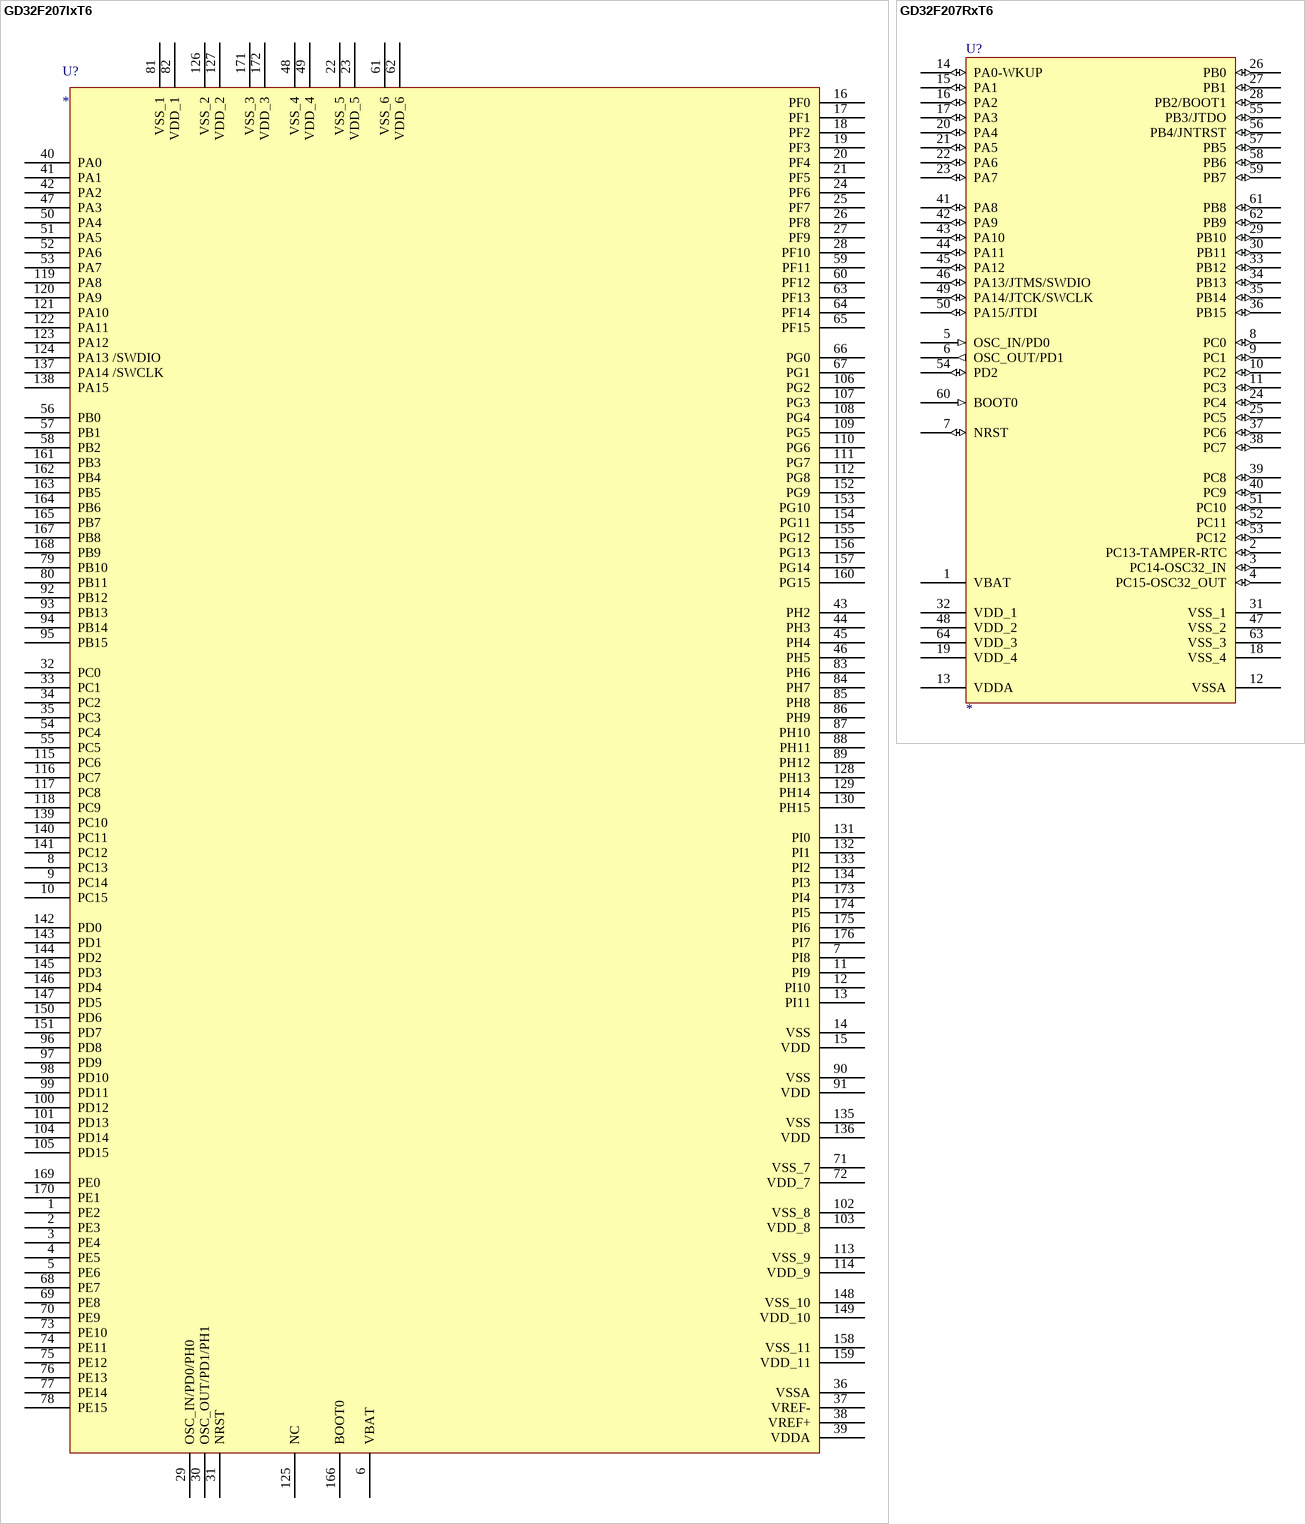
[diagram p16: symbols GD32F207IxT6 to GD32F207RxT6]

## GD32F207IxT6
designator U?
footprint LQFP176 (TSQFP, 176-Leads, Body 26.1x26.1mm (max), Pitch 0.50mm, IPC Medium Density)
pins: 1 PE2, 2 PE3, 3 PE4, 4 PE5, 5 PE6, 6 VBAT, 7 PI8, 8 PC13, 9 PC14, 10 PC15, 11 PI9, 12 PI10, 13 PI11, 14 VSS, 15 VDD, 16 PF0, 17 PF1, 18 PF2, 19 PF3, 20 PF4, 21 PF5, 22 VSS_5, 23 VDD_5, 24 PF6, 25 PF7, 26 PF8, 27 PF9, 28 PF10, 29 OSC_IN/PD0/PH0, 30 OSC_OUT/PD1/PH1, 31 NRST, 32 PC0, 33 PC1, 34 PC2, 35 PC3, 36 VSSA, 37 VREF-, 38 VREF+, 39 VDDA, 40 PA0, 41 PA1, 42 PA2, 43 PH2, 44 PH3, 45 PH4, 46 PH5, 47 PA3 , 48 VSS_4, 49 VDD_4, 50 PA4, 51 PA5, 52 PA6, 53 PA7, 54 PC4, 55 PC5, 56 PB0, 57 PB1, 58 PB2, 59 PF11, 60 PF12, 61 VSS_6, 62 VDD_6, 63 PF13, 64 PF14, 65 PF15, 66 PG0, 67 PG1, 68 PE7, 69 PE8, 70 PE9, 71 VSS_7, 72 VDD_7, 73 PE10, 74 PE11, 75 PE12, 76 PE13, 77 PE14, 78 PE15, 79 PB10, 80 PB11, 81 VSS_1, 82 VDD_1, 83 PH6, 84 PH7, 85 PH8, 86 PH9, 87 PH10, 88 PH11, 89 PH12, 90 VSS, 91 VDD, 92 PB12, 93 PB13, 94 PB14, 95 PB15, 96 PD8, 97 PD9, 98 PD10, 99 PD11, 100 PD12, 101 PD13, 102 VSS_8, 103 VDD_8, 104 PD14, 105 PD15, 106 PG2, 107 PG3, 108 PG4, 109 PG5, 110 PG6, 111 PG7, 112 PG8, 113 VSS_9, 114 VDD_9, 115 PC6, 116 PC7, 117 PC8, 118 PC9, 119 PA8, 120 PA9, 121 PA10, 122 PA11, 123 PA12, 124 PA13 /SWDIO, 125 NC, 126 VSS_2, 127 VDD_2, 128 PH13, 129 PH14, 130 PH15, 131 PI0, 132 PI1, 133 PI2, 134 PI3, 135 VSS, 136 VDD, 137 PA14 /SWCLK, 138 PA15, 139 PC10, 140 PC11, 141 PC12, 142 PD0, 143 PD1, 144 PD2, 145 PD3, 146 PD4, 147 PD5, 148 VSS_10, 149 VDD_10, 150 PD6, 151 PD7, 152 PG9, 153 PG10, 154 PG11, 155 PG12, 156 PG13, 157 PG14, 158 VSS_11, 159 VDD_11, 160 PG15, 161 PB3, 162 PB4, 163 PB5, 164 PB6, 165 PB7, 166 BOOT0, 167 PB8, 168 PB9, 169 PE0, 170 PE1, 171 VSS_3, 172 VDD_3, 173 PI4, 174 PI5, 175 PI6, 176 PI7

## GD32F207RxT6
designator U?
Published: *; DatasheetVersion: *; PackageVersion: *; PackageReference: *; Publisher: *; PackageDescription: *; ComponentLink1Description: *; ComponentLink1URL: *; ComponentLink2Description: *; ComponentLink2URL: *
footprint LQFP-64
pins: 1 VBAT (power), 2 PC13-TAMPER-RTC (io), 3 PC14-OSC32_IN (io), 4 PC15-OSC32_OUT (io), 5 OSC_IN/PD0 (in), 6 OSC_OUT/PD1 (out), 7 NRST (io), 8 PC0 (io), 9 PC1 (io), 10 PC2 (io), 11 PC3 (io), 12 VSSA (power), 13 VDDA (power), 14 PA0-WKUP (io), 15 PA1 (io), 16 PA2 (io), 17 PA3 (io), 18 VSS_4 (power), 19 VDD_4 (power), 20 PA4 (io), 21 PA5 (io), 22 PA6 (io), 23 PA7 (io), 24 PC4 (io), 25 PC5 (io), 26 PB0 (io), 27 PB1 (io), 28 PB2/BOOT1 (io), 29 PB10 (io), 30 PB11 (io), 31 VSS_1 (power), 32 VDD_1 (power), 33 PB12 (io), 34 PB13 (io), 35 PB14 (io), 36 PB15 (io), 37 PC6 (io), 38 PC7 (io), 39 PC8 (io), 40 PC9 (io), 41 PA8 (io), 42 PA9 (io), 43 PA10 (io), 44 PA11 (io), 45 PA12 (io), 46 PA13/JTMS/SWDIO (io), 47 VSS_2 (power), 48 VDD_2 (power), 49 PA14/JTCK/SWCLK (io), 50 PA15/JTDI (io), 51 PC10 (io), 52 PC11 (io), 53 PC12 (io), 54 PD2 (io), 55 PB3/JTDO (io), 56 PB4/JNTRST (io), 57 PB5 (io), 58 PB6 (io), 59 PB7 (io), 60 BOOT0 (in), 61 PB8 (io), 62 PB9 (io), 63 VSS_3 (power), 64 VDD_3 (power)
2 alternate drawings of the same symbol

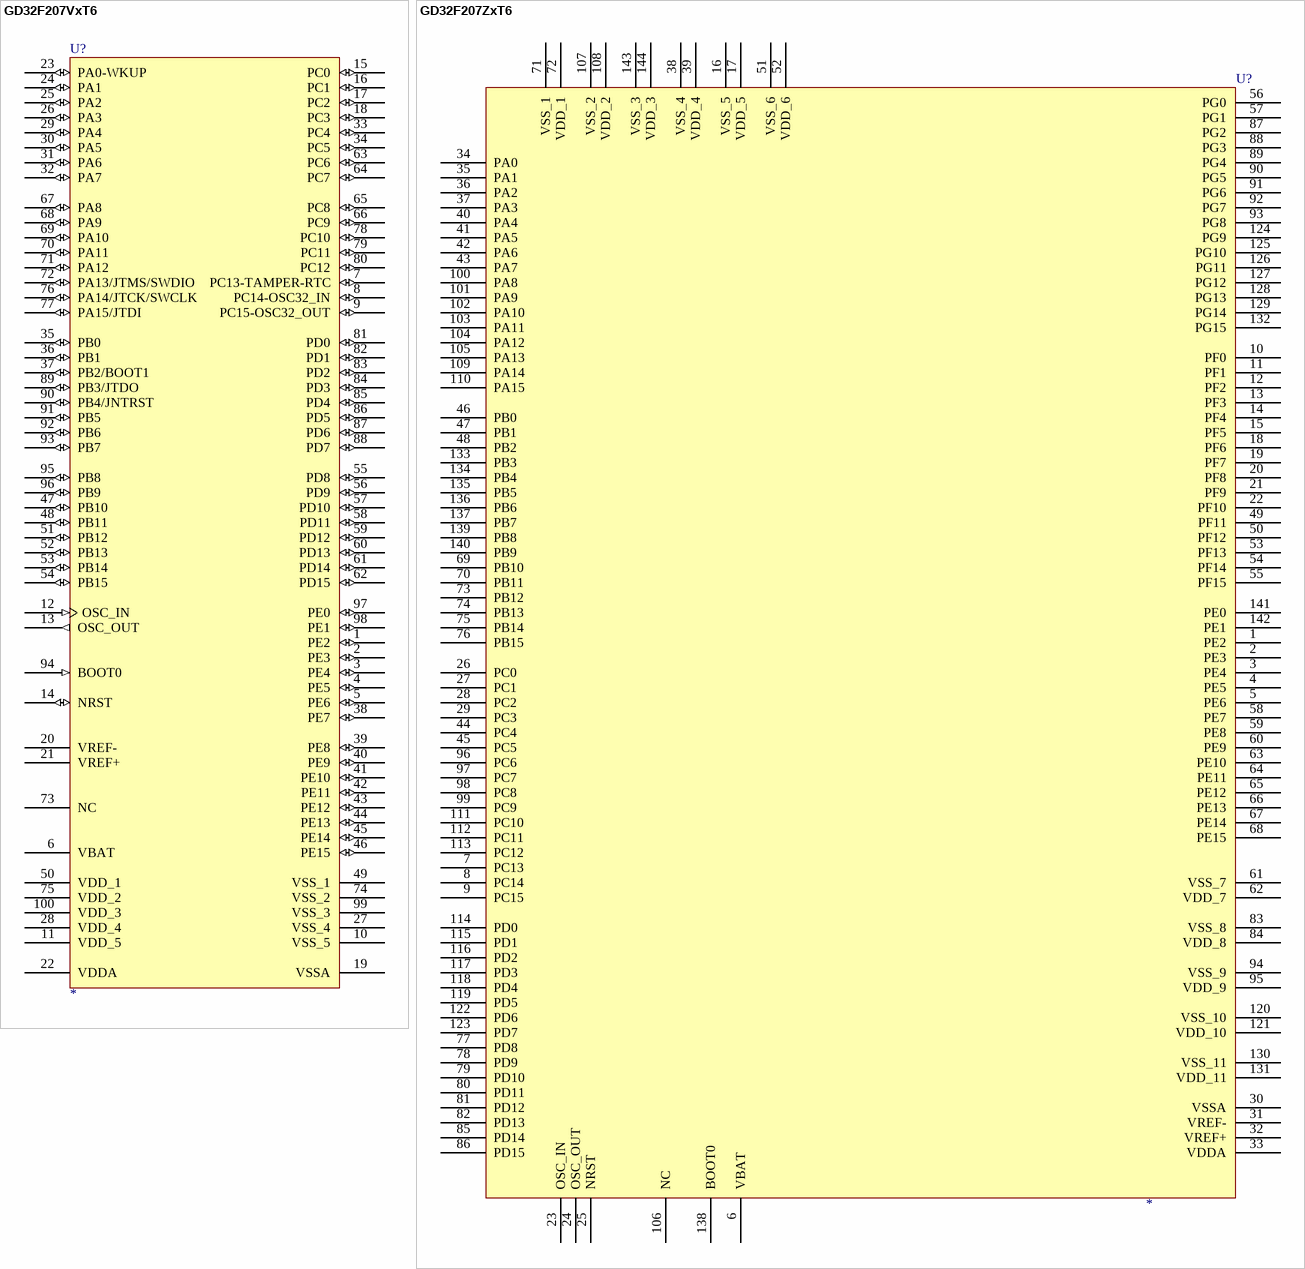
[diagram p17: symbols GD32F207VxT6 to GD32F207ZxT6]

## GD32F207VxT6
designator U?
Published: *; DatasheetVersion: *; PackageVersion: *; PackageReference: *; Publisher: *; PackageDescription: *; ComponentLink1Description: *; ComponentLink1URL: *; ComponentLink2Description: *; ComponentLink2URL: *
footprint LQFP-100
pins: 1 PE2 (io), 2 PE3 (io), 3 PE4 (io), 4 PE5 (io), 5 PE6 (io), 6 VBAT (power), 7 PC13-TAMPER-RTC (io), 8 PC14-OSC32_IN (io), 9 PC15-OSC32_OUT (io), 10 VSS_5 (power), 11 VDD_5 (power), 12 OSC_IN (in), 13 OSC_OUT (out), 14 NRST (io), 15 PC0 (io), 16 PC1 (io), 17 PC2 (io), 18 PC3 (io), 19 VSSA (power), 20 VREF- (power), 21 VREF+ (power), 22 VDDA (power), 23 PA0-WKUP (io), 24 PA1 (io), 25 PA2 (io), 26 PA3 (io), 27 VSS_4 (power), 28 VDD_4 (power), 29 PA4 (io), 30 PA5 (io), 31 PA6 (io), 32 PA7 (io), 33 PC4 (io), 34 PC5 (io), 35 PB0 (io), 36 PB1 (io), 37 PB2/BOOT1 (io), 38 PE7 (io), 39 PE8 (io), 40 PE9 (io), 41 PE10 (io), 42 PE11 (io), 43 PE12 (io), 44 PE13 (io), 45 PE14 (io), 46 PE15 (io), 47 PB10 (io), 48 PB11 (io), 49 VSS_1 (power), 50 VDD_1 (power), 51 PB12 (io), 52 PB13 (io), 53 PB14 (io), 54 PB15 (io), 55 PD8 (io), 56 PD9 (io), 57 PD10 (io), 58 PD11 (io), 59 PD12 (io), 60 PD13 (io), 61 PD14 (io), 62 PD15 (io), 63 PC6 (io), 64 PC7 (io), 65 PC8 (io), 66 PC9 (io), 67 PA8 (io), 68 PA9 (io), 69 PA10 (io), 70 PA11 (io), 71 PA12 (io), 72 PA13/JTMS/SWDIO (io), 73 NC, 74 VSS_2 (power), 75 VDD_2 (power), 76 PA14/JTCK/SWCLK (io), 77 PA15/JTDI (io), 78 PC10 (io), 79 PC11 (io), 80 PC12 (io), 81 PD0 (io), 82 PD1 (io), 83 PD2 (io), 84 PD3 (io), 85 PD4 (io), 86 PD5 (io), 87 PD6 (io), 88 PD7 (io), 89 PB3/JTDO (io), 90 PB4/JNTRST (io), 91 PB5 (io), 92 PB6 (io), 93 PB7 (io), 94 BOOT0 (in), 95 PB8 (io), 96 PB9 (io), 97 PE0 (io), 98 PE1 (io), 99 VSS_3 (power), 100 VDD_3 (power)
2 alternate drawings of the same symbol

## GD32F207ZxT6
designator U?
footprint LQFP144
pins: 1 PE2, 2 PE3, 3 PE4, 4 PE5, 5 PE6, 6 VBAT, 7 PC13, 8 PC14, 9 PC15, 10 PF0, 11 PF1, 12 PF2, 13 PF3, 14 PF4, 15 PF5, 16 VSS_5, 17 VDD_5, 18 PF6, 19 PF7, 20 PF8, 21 PF9, 22 PF10, 23 OSC_IN, 24 OSC_OUT, 25 NRST, 26 PC0, 27 PC1, 28 PC2, 29 PC3, 30 VSSA, 31 VREF-, 32 VREF+, 33 VDDA, 34 PA0, 35 PA1, 36 PA2, 37 PA3, 38 VSS_4, 39 VDD_4, 40 PA4, 41 PA5, 42 PA6, 43 PA7, 44 PC4, 45 PC5, 46 PB0, 47 PB1, 48 PB2, 49 PF11, 50 PF12, 51 VSS_6, 52 VDD_6, 53 PF13, 54 PF14, 55 PF15, 56 PG0, 57 PG1, 58 PE7, 59 PE8, 60 PE9, 61 VSS_7, 62 VDD_7, 63 PE10, 64 PE11, 65 PE12, 66 PE13, 67 PE14, 68 PE15, 69 PB10, 70 PB11, 71 VSS_1, 72 VDD_1, 73 PB12, 74 PB13, 75 PB14, 76 PB15, 77 PD8, 78 PD9, 79 PD10, 80 PD11, 81 PD12, 82 PD13, 83 VSS_8, 84 VDD_8, 85 PD14, 86 PD15, 87 PG2, 88 PG3, 89 PG4, 90 PG5, 91 PG6, 92 PG7, 93 PG8, 94 VSS_9, 95 VDD_9, 96 PC6, 97 PC7, 98 PC8, 99 PC9, 100 PA8, 101 PA9, 102 PA10, 103 PA11, 104 PA12, 105 PA13, 106 NC, 107 VSS_2, 108 VDD_2, 109 PA14, 110 PA15, 111 PC10, 112 PC11, 113 PC12, 114 PD0, 115 PD1, 116 PD2, 117 PD3, 118 PD4, 119 PD5, 120 VSS_10, 121 VDD_10, 122 PD6, 123 PD7, 124 PG9, 125 PG10, 126 PG11, 127 PG12, 128 PG13, 129 PG14, 130 VSS_11, 131 VDD_11, 132 PG15, 133 PB3, 134 PB4, 135 PB5, 136 PB6, 137 PB7, 138 BOOT0, 139 PB8, 140 PB9, 141 PE0, 142 PE1, 143 VSS_3, 144 VDD_3

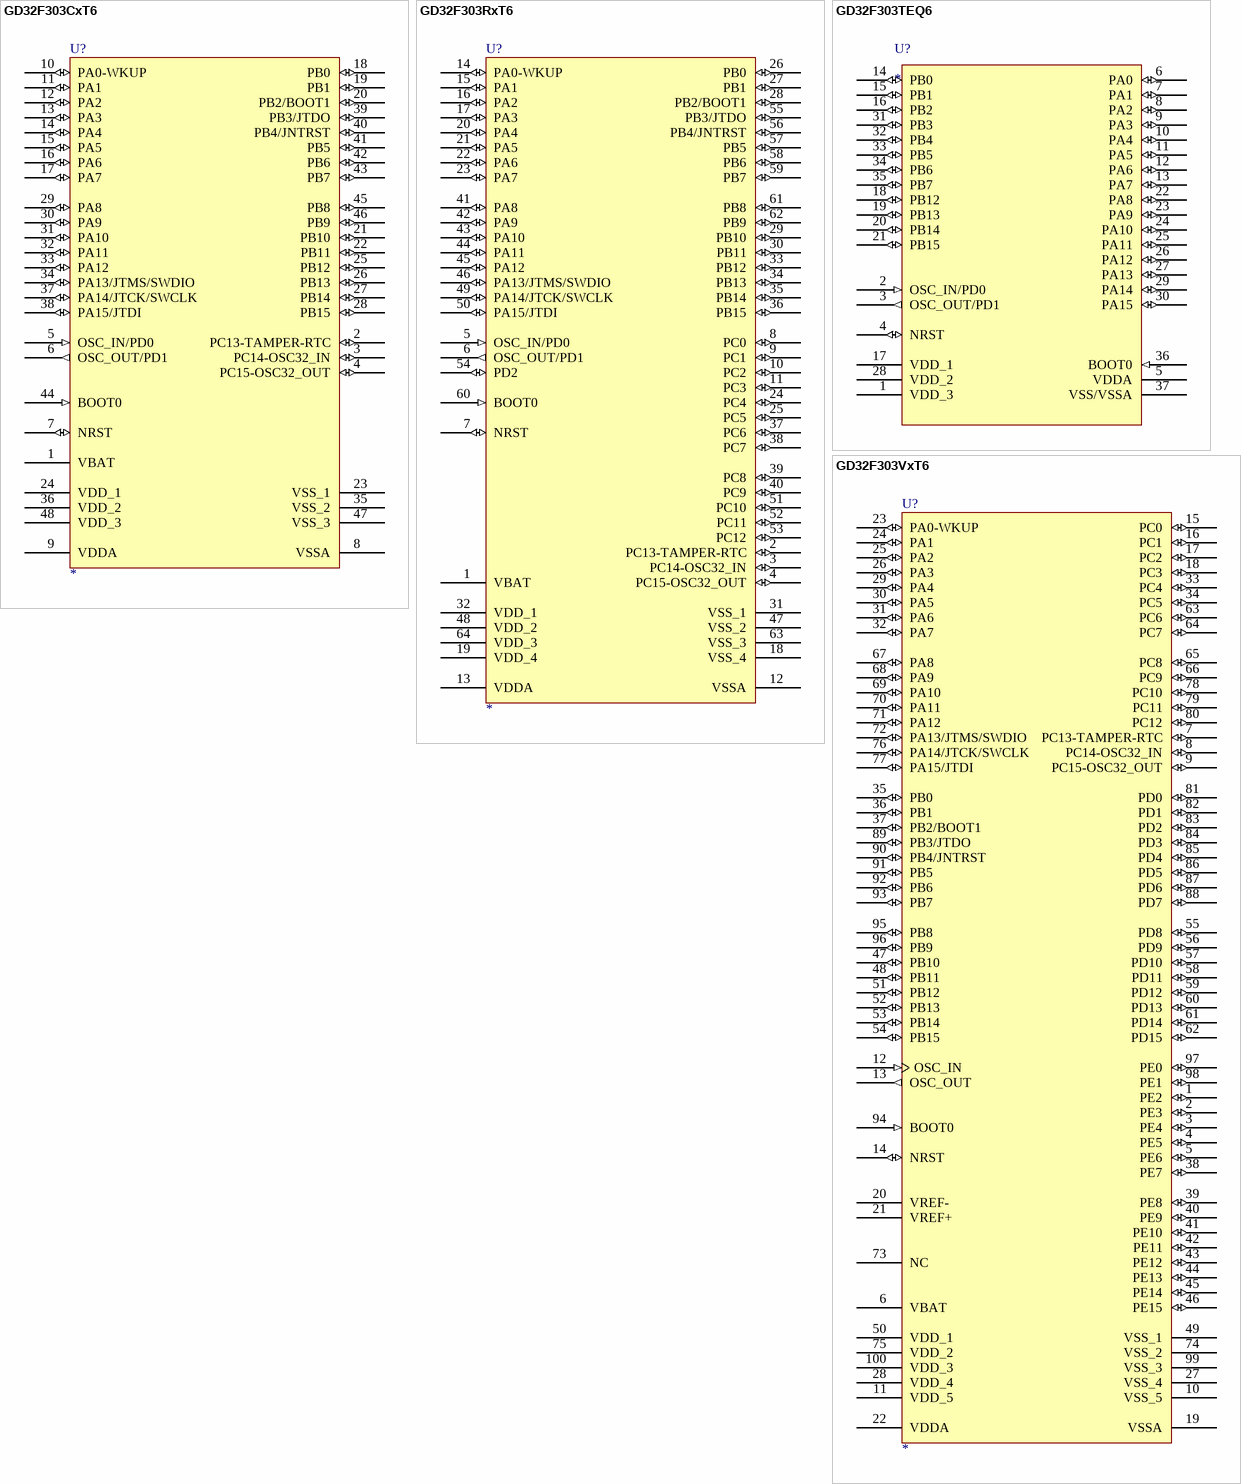
[diagram p18: symbols GD32F303CxT6 to GD32F303VxT6]

## GD32F303CxT6
designator U?
Published: *; DatasheetVersion: *; PackageVersion: *; PackageReference: *; Publisher: *; PackageDescription: *; ComponentLink1Description: *; ComponentLink1URL: *; ComponentLink2Description: *; ComponentLink2URL: *
footprint LQFP-48
pins: 1 VBAT (power), 2 PC13-TAMPER-RTC (io), 3 PC14-OSC32_IN (io), 4 PC15-OSC32_OUT (io), 5 OSC_IN/PD0 (in), 6 OSC_OUT/PD1 (out), 7 NRST (io), 8 VSSA (power), 9 VDDA (power), 10 PA0-WKUP (io), 11 PA1 (io), 12 PA2 (io), 13 PA3 (io), 14 PA4 (io), 15 PA5 (io), 16 PA6 (io), 17 PA7 (io), 18 PB0 (io), 19 PB1 (io), 20 PB2/BOOT1 (io), 21 PB10 (io), 22 PB11 (io), 23 VSS_1 (power), 24 VDD_1 (power), 25 PB12 (io), 26 PB13 (io), 27 PB14 (io), 28 PB15 (io), 29 PA8 (io), 30 PA9 (io), 31 PA10 (io), 32 PA11 (io), 33 PA12 (io), 34 PA13/JTMS/SWDIO (io), 35 VSS_2 (power), 36 VDD_2 (power), 37 PA14/JTCK/SWCLK (io), 38 PA15/JTDI (io), 39 PB3/JTDO (io), 40 PB4/JNTRST (io), 41 PB5 (io), 42 PB6 (io), 43 PB7 (io), 44 BOOT0 (in), 45 PB8 (io), 46 PB9 (io), 47 VSS_3 (power), 48 VDD_3 (power)
2 alternate drawings of the same symbol

## GD32F303RxT6
designator U?
Published: *; DatasheetVersion: *; PackageVersion: *; PackageReference: *; Publisher: *; PackageDescription: *; ComponentLink1Description: *; ComponentLink1URL: *; ComponentLink2Description: *; ComponentLink2URL: *
footprint LQFP-64
pins: 1 VBAT (power), 2 PC13-TAMPER-RTC (io), 3 PC14-OSC32_IN (io), 4 PC15-OSC32_OUT (io), 5 OSC_IN/PD0 (in), 6 OSC_OUT/PD1 (out), 7 NRST (io), 8 PC0 (io), 9 PC1 (io), 10 PC2 (io), 11 PC3 (io), 12 VSSA (power), 13 VDDA (power), 14 PA0-WKUP (io), 15 PA1 (io), 16 PA2 (io), 17 PA3 (io), 18 VSS_4 (power), 19 VDD_4 (power), 20 PA4 (io), 21 PA5 (io), 22 PA6 (io), 23 PA7 (io), 24 PC4 (io), 25 PC5 (io), 26 PB0 (io), 27 PB1 (io), 28 PB2/BOOT1 (io), 29 PB10 (io), 30 PB11 (io), 31 VSS_1 (power), 32 VDD_1 (power), 33 PB12 (io), 34 PB13 (io), 35 PB14 (io), 36 PB15 (io), 37 PC6 (io), 38 PC7 (io), 39 PC8 (io), 40 PC9 (io), 41 PA8 (io), 42 PA9 (io), 43 PA10 (io), 44 PA11 (io), 45 PA12 (io), 46 PA13/JTMS/SWDIO (io), 47 VSS_2 (power), 48 VDD_2 (power), 49 PA14/JTCK/SWCLK (io), 50 PA15/JTDI (io), 51 PC10 (io), 52 PC11 (io), 53 PC12 (io), 54 PD2 (io), 55 PB3/JTDO (io), 56 PB4/JNTRST (io), 57 PB5 (io), 58 PB6 (io), 59 PB7 (io), 60 BOOT0 (in), 61 PB8 (io), 62 PB9 (io), 63 VSS_3 (power), 64 VDD_3 (power)
2 alternate drawings of the same symbol

## GD32F303TEQ6
designator U?
footprint QFN36(5*5) (Footprint not found)
pins: 1 VDD_3 (power), 2 OSC_IN/PD0 (in), 3 OSC_OUT/PD1 (out), 4 NRST (io), 5 VDDA (power), 6 PA0 (io), 7 PA1 (io), 8 PA2 (io), 9 PA3 (io), 10 PA4 (io), 11 PA5 (io), 12 PA6 (io), 13 PA7 (io), 14 PB0 (io), 15 PB1 (io), 16 PB2 (io), 17 VDD_1 (power), 18 PB12 (io), 19 PB13 (io), 20 PB14 (io), 21 PB15 (io), 22 PA8 (io), 23 PA9 (io), 24 PA10 (io), 25 PA11 (io), 26 PA12 (io), 27 PA13 (io), 28 VDD_2 (power), 29 PA14 (io), 30 PA15 (io), 31 PB3 (io), 32 PB4 (io), 33 PB5 (io), 34 PB6 (io), 35 PB7 (io), 36 BOOT0 (in), 37 VSS/VSSA

## GD32F303VxT6
designator U?
Published: *; DatasheetVersion: *; PackageVersion: *; PackageReference: *; Publisher: *; PackageDescription: *; ComponentLink1Description: *; ComponentLink1URL: *; ComponentLink2Description: *; ComponentLink2URL: *
footprint LQFP-100
pins: 1 PE2 (io), 2 PE3 (io), 3 PE4 (io), 4 PE5 (io), 5 PE6 (io), 6 VBAT (power), 7 PC13-TAMPER-RTC (io), 8 PC14-OSC32_IN (io), 9 PC15-OSC32_OUT (io), 10 VSS_5 (power), 11 VDD_5 (power), 12 OSC_IN (in), 13 OSC_OUT (out), 14 NRST (io), 15 PC0 (io), 16 PC1 (io), 17 PC2 (io), 18 PC3 (io), 19 VSSA (power), 20 VREF- (power), 21 VREF+ (power), 22 VDDA (power), 23 PA0-WKUP (io), 24 PA1 (io), 25 PA2 (io), 26 PA3 (io), 27 VSS_4 (power), 28 VDD_4 (power), 29 PA4 (io), 30 PA5 (io), 31 PA6 (io), 32 PA7 (io), 33 PC4 (io), 34 PC5 (io), 35 PB0 (io), 36 PB1 (io), 37 PB2/BOOT1 (io), 38 PE7 (io), 39 PE8 (io), 40 PE9 (io), 41 PE10 (io), 42 PE11 (io), 43 PE12 (io), 44 PE13 (io), 45 PE14 (io), 46 PE15 (io), 47 PB10 (io), 48 PB11 (io), 49 VSS_1 (power), 50 VDD_1 (power), 51 PB12 (io), 52 PB13 (io), 53 PB14 (io), 54 PB15 (io), 55 PD8 (io), 56 PD9 (io), 57 PD10 (io), 58 PD11 (io), 59 PD12 (io), 60 PD13 (io), 61 PD14 (io), 62 PD15 (io), 63 PC6 (io), 64 PC7 (io), 65 PC8 (io), 66 PC9 (io), 67 PA8 (io), 68 PA9 (io), 69 PA10 (io), 70 PA11 (io), 71 PA12 (io), 72 PA13/JTMS/SWDIO (io), 73 NC, 74 VSS_2 (power), 75 VDD_2 (power), 76 PA14/JTCK/SWCLK (io), 77 PA15/JTDI (io), 78 PC10 (io), 79 PC11 (io), 80 PC12 (io), 81 PD0 (io), 82 PD1 (io), 83 PD2 (io), 84 PD3 (io), 85 PD4 (io), 86 PD5 (io), 87 PD6 (io), 88 PD7 (io), 89 PB3/JTDO (io), 90 PB4/JNTRST (io), 91 PB5 (io), 92 PB6 (io), 93 PB7 (io), 94 BOOT0 (in), 95 PB8 (io), 96 PB9 (io), 97 PE0 (io), 98 PE1 (io), 99 VSS_3 (power), 100 VDD_3 (power)
2 alternate drawings of the same symbol

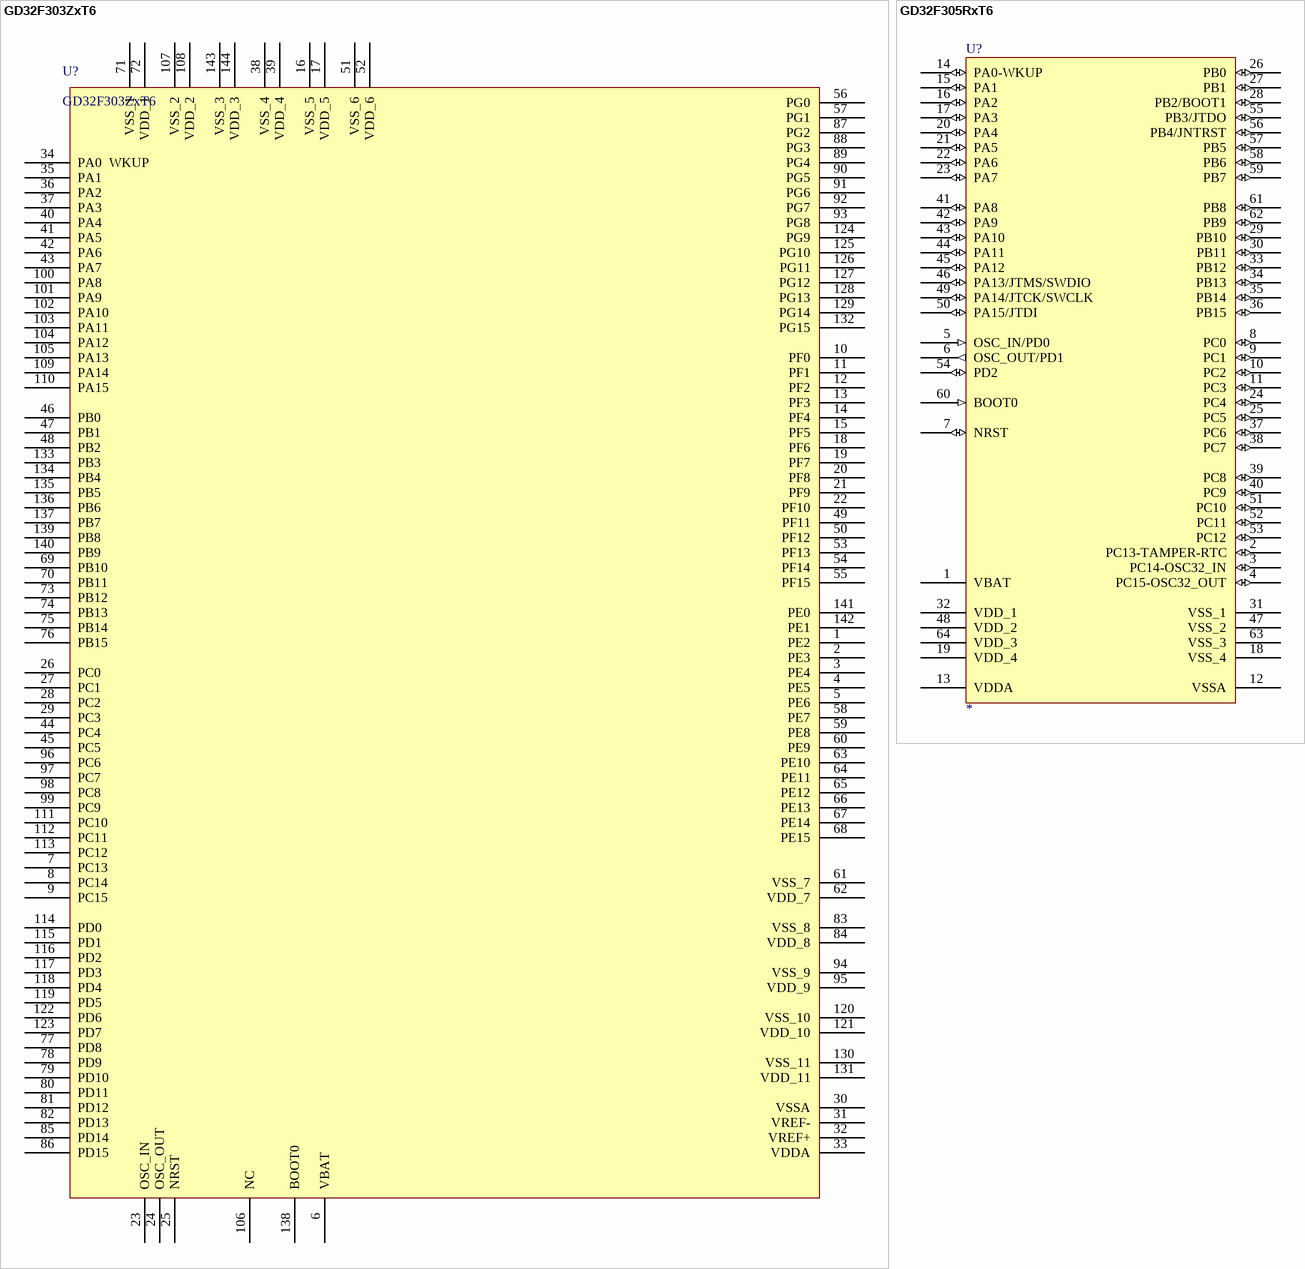
[diagram p19: symbols GD32F303ZxT6 to GD32F305RxT6]

## GD32F303ZxT6
designator U?
footprint LQFP144
pins: 1 PE2, 2 PE3, 3 PE4, 4 PE5, 5 PE6, 6 VBAT, 7 PC13, 8 PC14, 9 PC15, 10 PF0, 11 PF1, 12 PF2, 13 PF3, 14 PF4, 15 PF5, 16 VSS_5, 17 VDD_5, 18 PF6, 19 PF7, 20 PF8, 21 PF9, 22 PF10, 23 OSC_IN, 24 OSC_OUT, 25 NRST, 26 PC0, 27 PC1, 28 PC2, 29 PC3, 30 VSSA, 31 VREF-, 32 VREF+, 33 VDDA, 34 PA0  WKUP , 35 PA1, 36 PA2, 37 PA3 , 38 VSS_4, 39 VDD_4, 40 PA4, 41 PA5, 42 PA6, 43 PA7, 44 PC4, 45 PC5, 46 PB0, 47 PB1, 48 PB2, 49 PF11, 50 PF12, 51 VSS_6, 52 VDD_6, 53 PF13, 54 PF14, 55 PF15, 56 PG0, 57 PG1, 58 PE7, 59 PE8, 60 PE9, 61 VSS_7, 62 VDD_7, 63 PE10, 64 PE11, 65 PE12, 66 PE13, 67 PE14, 68 PE15, 69 PB10, 70 PB11, 71 VSS_1, 72 VDD_1, 73 PB12, 74 PB13, 75 PB14, 76 PB15, 77 PD8, 78 PD9, 79 PD10, 80 PD11, 81 PD12, 82 PD13, 83 VSS_8, 84 VDD_8, 85 PD14, 86 PD15, 87 PG2, 88 PG3, 89 PG4, 90 PG5, 91 PG6, 92 PG7, 93 PG8, 94 VSS_9, 95 VDD_9, 96 PC6, 97 PC7, 98 PC8, 99 PC9, 100 PA8, 101 PA9, 102 PA10, 103 PA11, 104 PA12, 105 PA13, 106 NC, 107 VSS_2, 108 VDD_2, 109 PA14, 110 PA15, 111 PC10, 112 PC11, 113 PC12, 114 PD0, 115 PD1, 116 PD2, 117 PD3, 118 PD4, 119 PD5, 120 VSS_10, 121 VDD_10, 122 PD6, 123 PD7, 124 PG9, 125 PG10, 126 PG11, 127 PG12, 128 PG13, 129 PG14, 130 VSS_11, 131 VDD_11, 132 PG15, 133 PB3, 134 PB4, 135 PB5, 136 PB6, 137 PB7, 138 BOOT0, 139 PB8, 140 PB9, 141 PE0, 142 PE1, 143 VSS_3, 144 VDD_3

## GD32F305RxT6
designator U?
Published: *; DatasheetVersion: *; PackageVersion: *; PackageReference: *; Publisher: *; PackageDescription: *; ComponentLink1Description: *; ComponentLink1URL: *; ComponentLink2Description: *; ComponentLink2URL: *
footprint LQFP-64
pins: 1 VBAT (power), 2 PC13-TAMPER-RTC (io), 3 PC14-OSC32_IN (io), 4 PC15-OSC32_OUT (io), 5 OSC_IN/PD0 (in), 6 OSC_OUT/PD1 (out), 7 NRST (io), 8 PC0 (io), 9 PC1 (io), 10 PC2 (io), 11 PC3 (io), 12 VSSA (power), 13 VDDA (power), 14 PA0-WKUP (io), 15 PA1 (io), 16 PA2 (io), 17 PA3 (io), 18 VSS_4 (power), 19 VDD_4 (power), 20 PA4 (io), 21 PA5 (io), 22 PA6 (io), 23 PA7 (io), 24 PC4 (io), 25 PC5 (io), 26 PB0 (io), 27 PB1 (io), 28 PB2/BOOT1 (io), 29 PB10 (io), 30 PB11 (io), 31 VSS_1 (power), 32 VDD_1 (power), 33 PB12 (io), 34 PB13 (io), 35 PB14 (io), 36 PB15 (io), 37 PC6 (io), 38 PC7 (io), 39 PC8 (io), 40 PC9 (io), 41 PA8 (io), 42 PA9 (io), 43 PA10 (io), 44 PA11 (io), 45 PA12 (io), 46 PA13/JTMS/SWDIO (io), 47 VSS_2 (power), 48 VDD_2 (power), 49 PA14/JTCK/SWCLK (io), 50 PA15/JTDI (io), 51 PC10 (io), 52 PC11 (io), 53 PC12 (io), 54 PD2 (io), 55 PB3/JTDO (io), 56 PB4/JNTRST (io), 57 PB5 (io), 58 PB6 (io), 59 PB7 (io), 60 BOOT0 (in), 61 PB8 (io), 62 PB9 (io), 63 VSS_3 (power), 64 VDD_3 (power)
2 alternate drawings of the same symbol

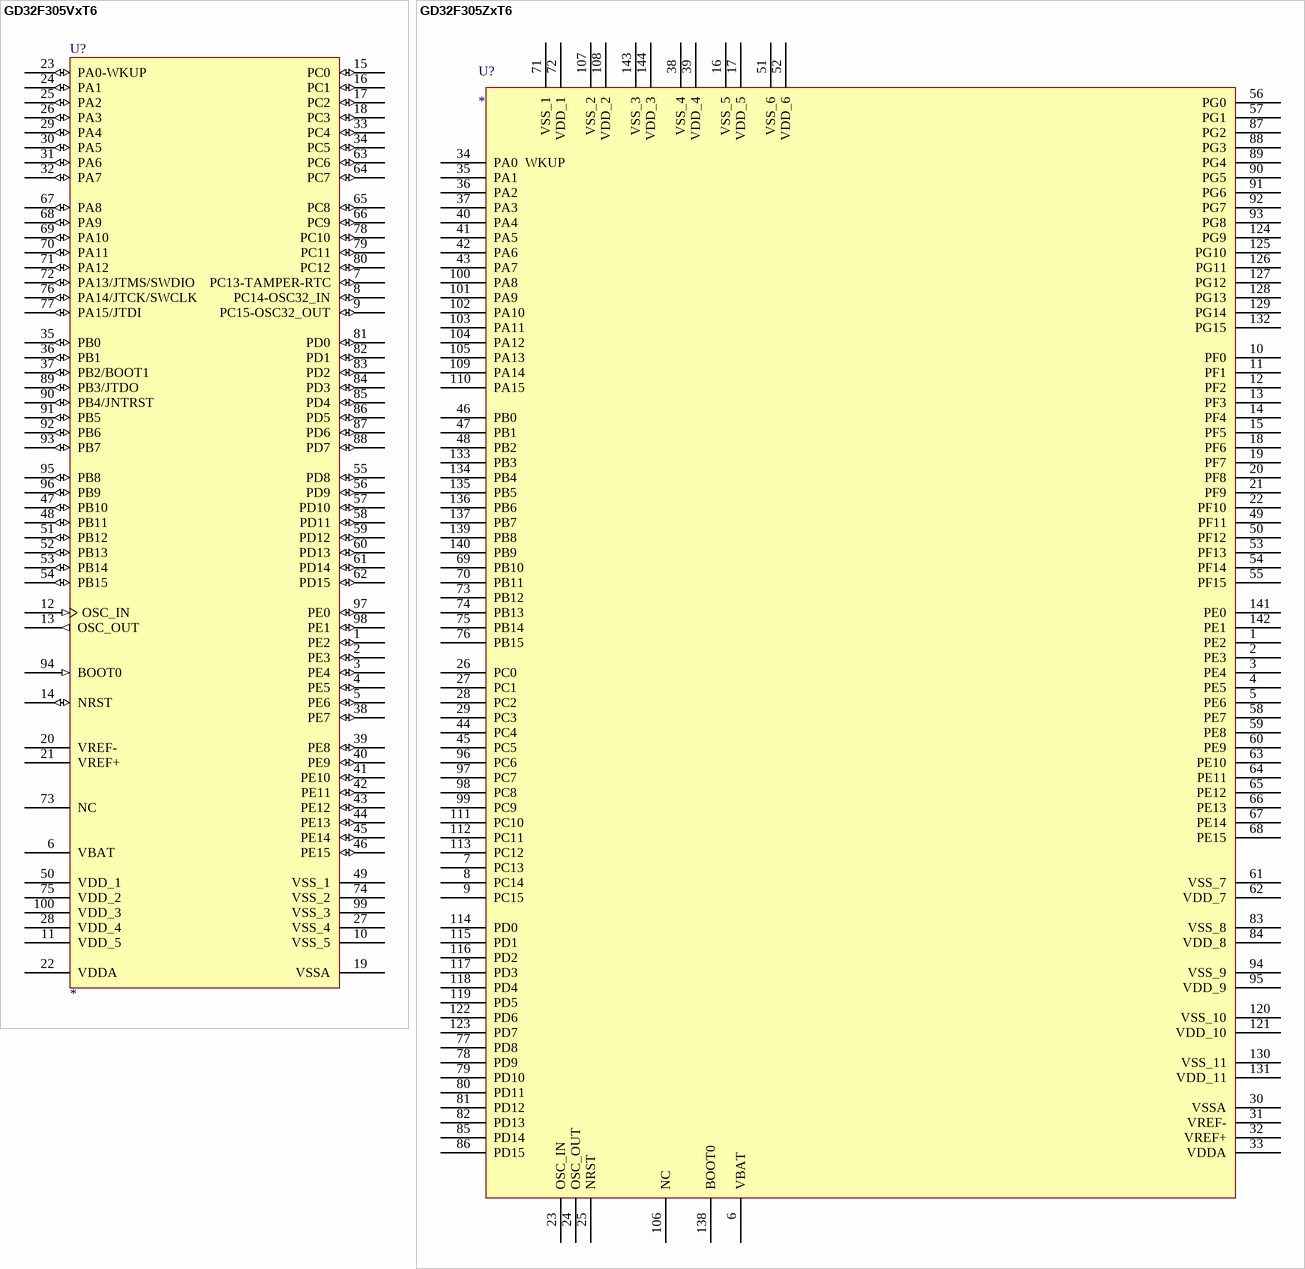
[diagram p20: symbols GD32F305VxT6 to GD32F305ZxT6]

## GD32F305VxT6
designator U?
Published: *; DatasheetVersion: *; PackageVersion: *; PackageReference: *; Publisher: *; PackageDescription: *; ComponentLink1Description: *; ComponentLink1URL: *; ComponentLink2Description: *; ComponentLink2URL: *
footprint LQFP-100
pins: 1 PE2 (io), 2 PE3 (io), 3 PE4 (io), 4 PE5 (io), 5 PE6 (io), 6 VBAT (power), 7 PC13-TAMPER-RTC (io), 8 PC14-OSC32_IN (io), 9 PC15-OSC32_OUT (io), 10 VSS_5 (power), 11 VDD_5 (power), 12 OSC_IN (in), 13 OSC_OUT (out), 14 NRST (io), 15 PC0 (io), 16 PC1 (io), 17 PC2 (io), 18 PC3 (io), 19 VSSA (power), 20 VREF- (power), 21 VREF+ (power), 22 VDDA (power), 23 PA0-WKUP (io), 24 PA1 (io), 25 PA2 (io), 26 PA3 (io), 27 VSS_4 (power), 28 VDD_4 (power), 29 PA4 (io), 30 PA5 (io), 31 PA6 (io), 32 PA7 (io), 33 PC4 (io), 34 PC5 (io), 35 PB0 (io), 36 PB1 (io), 37 PB2/BOOT1 (io), 38 PE7 (io), 39 PE8 (io), 40 PE9 (io), 41 PE10 (io), 42 PE11 (io), 43 PE12 (io), 44 PE13 (io), 45 PE14 (io), 46 PE15 (io), 47 PB10 (io), 48 PB11 (io), 49 VSS_1 (power), 50 VDD_1 (power), 51 PB12 (io), 52 PB13 (io), 53 PB14 (io), 54 PB15 (io), 55 PD8 (io), 56 PD9 (io), 57 PD10 (io), 58 PD11 (io), 59 PD12 (io), 60 PD13 (io), 61 PD14 (io), 62 PD15 (io), 63 PC6 (io), 64 PC7 (io), 65 PC8 (io), 66 PC9 (io), 67 PA8 (io), 68 PA9 (io), 69 PA10 (io), 70 PA11 (io), 71 PA12 (io), 72 PA13/JTMS/SWDIO (io), 73 NC, 74 VSS_2 (power), 75 VDD_2 (power), 76 PA14/JTCK/SWCLK (io), 77 PA15/JTDI (io), 78 PC10 (io), 79 PC11 (io), 80 PC12 (io), 81 PD0 (io), 82 PD1 (io), 83 PD2 (io), 84 PD3 (io), 85 PD4 (io), 86 PD5 (io), 87 PD6 (io), 88 PD7 (io), 89 PB3/JTDO (io), 90 PB4/JNTRST (io), 91 PB5 (io), 92 PB6 (io), 93 PB7 (io), 94 BOOT0 (in), 95 PB8 (io), 96 PB9 (io), 97 PE0 (io), 98 PE1 (io), 99 VSS_3 (power), 100 VDD_3 (power)
2 alternate drawings of the same symbol

## GD32F305ZxT6
designator U?
footprint LQFP144
pins: 1 PE2, 2 PE3, 3 PE4, 4 PE5, 5 PE6, 6 VBAT, 7 PC13, 8 PC14, 9 PC15, 10 PF0, 11 PF1, 12 PF2, 13 PF3, 14 PF4, 15 PF5, 16 VSS_5, 17 VDD_5, 18 PF6, 19 PF7, 20 PF8, 21 PF9, 22 PF10, 23 OSC_IN, 24 OSC_OUT, 25 NRST, 26 PC0, 27 PC1, 28 PC2, 29 PC3, 30 VSSA, 31 VREF-, 32 VREF+, 33 VDDA, 34 PA0  WKUP , 35 PA1, 36 PA2, 37 PA3 , 38 VSS_4, 39 VDD_4, 40 PA4, 41 PA5, 42 PA6, 43 PA7, 44 PC4, 45 PC5, 46 PB0, 47 PB1, 48 PB2, 49 PF11, 50 PF12, 51 VSS_6, 52 VDD_6, 53 PF13, 54 PF14, 55 PF15, 56 PG0, 57 PG1, 58 PE7, 59 PE8, 60 PE9, 61 VSS_7, 62 VDD_7, 63 PE10, 64 PE11, 65 PE12, 66 PE13, 67 PE14, 68 PE15, 69 PB10, 70 PB11, 71 VSS_1, 72 VDD_1, 73 PB12, 74 PB13, 75 PB14, 76 PB15, 77 PD8, 78 PD9, 79 PD10, 80 PD11, 81 PD12, 82 PD13, 83 VSS_8, 84 VDD_8, 85 PD14, 86 PD15, 87 PG2, 88 PG3, 89 PG4, 90 PG5, 91 PG6, 92 PG7, 93 PG8, 94 VSS_9, 95 VDD_9, 96 PC6, 97 PC7, 98 PC8, 99 PC9, 100 PA8, 101 PA9, 102 PA10, 103 PA11, 104 PA12, 105 PA13, 106 NC, 107 VSS_2, 108 VDD_2, 109 PA14, 110 PA15, 111 PC10, 112 PC11, 113 PC12, 114 PD0, 115 PD1, 116 PD2, 117 PD3, 118 PD4, 119 PD5, 120 VSS_10, 121 VDD_10, 122 PD6, 123 PD7, 124 PG9, 125 PG10, 126 PG11, 127 PG12, 128 PG13, 129 PG14, 130 VSS_11, 131 VDD_11, 132 PG15, 133 PB3, 134 PB4, 135 PB5, 136 PB6, 137 PB7, 138 BOOT0, 139 PB8, 140 PB9, 141 PE0, 142 PE1, 143 VSS_3, 144 VDD_3

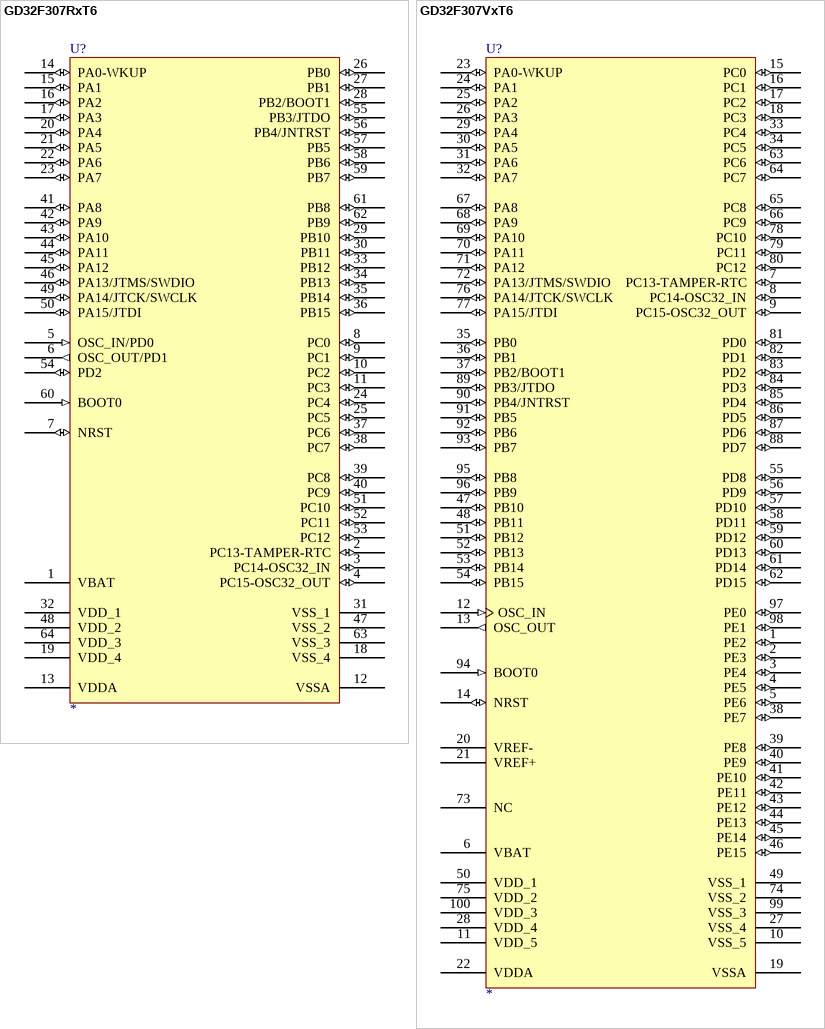
[diagram p21: symbols GD32F307RxT6 to GD32F307VxT6]

## GD32F307RxT6
designator U?
Published: *; DatasheetVersion: *; PackageVersion: *; PackageReference: *; Publisher: *; PackageDescription: *; ComponentLink1Description: *; ComponentLink1URL: *; ComponentLink2Description: *; ComponentLink2URL: *
footprint LQFP-64
pins: 1 VBAT (power), 2 PC13-TAMPER-RTC (io), 3 PC14-OSC32_IN (io), 4 PC15-OSC32_OUT (io), 5 OSC_IN/PD0 (in), 6 OSC_OUT/PD1 (out), 7 NRST (io), 8 PC0 (io), 9 PC1 (io), 10 PC2 (io), 11 PC3 (io), 12 VSSA (power), 13 VDDA (power), 14 PA0-WKUP (io), 15 PA1 (io), 16 PA2 (io), 17 PA3 (io), 18 VSS_4 (power), 19 VDD_4 (power), 20 PA4 (io), 21 PA5 (io), 22 PA6 (io), 23 PA7 (io), 24 PC4 (io), 25 PC5 (io), 26 PB0 (io), 27 PB1 (io), 28 PB2/BOOT1 (io), 29 PB10 (io), 30 PB11 (io), 31 VSS_1 (power), 32 VDD_1 (power), 33 PB12 (io), 34 PB13 (io), 35 PB14 (io), 36 PB15 (io), 37 PC6 (io), 38 PC7 (io), 39 PC8 (io), 40 PC9 (io), 41 PA8 (io), 42 PA9 (io), 43 PA10 (io), 44 PA11 (io), 45 PA12 (io), 46 PA13/JTMS/SWDIO (io), 47 VSS_2 (power), 48 VDD_2 (power), 49 PA14/JTCK/SWCLK (io), 50 PA15/JTDI (io), 51 PC10 (io), 52 PC11 (io), 53 PC12 (io), 54 PD2 (io), 55 PB3/JTDO (io), 56 PB4/JNTRST (io), 57 PB5 (io), 58 PB6 (io), 59 PB7 (io), 60 BOOT0 (in), 61 PB8 (io), 62 PB9 (io), 63 VSS_3 (power), 64 VDD_3 (power)
2 alternate drawings of the same symbol

## GD32F307VxT6
designator U?
Published: *; DatasheetVersion: *; PackageVersion: *; PackageReference: *; Publisher: *; PackageDescription: *; ComponentLink1Description: *; ComponentLink1URL: *; ComponentLink2Description: *; ComponentLink2URL: *
footprint LQFP-100
pins: 1 PE2 (io), 2 PE3 (io), 3 PE4 (io), 4 PE5 (io), 5 PE6 (io), 6 VBAT (power), 7 PC13-TAMPER-RTC (io), 8 PC14-OSC32_IN (io), 9 PC15-OSC32_OUT (io), 10 VSS_5 (power), 11 VDD_5 (power), 12 OSC_IN (in), 13 OSC_OUT (out), 14 NRST (io), 15 PC0 (io), 16 PC1 (io), 17 PC2 (io), 18 PC3 (io), 19 VSSA (power), 20 VREF- (power), 21 VREF+ (power), 22 VDDA (power), 23 PA0-WKUP (io), 24 PA1 (io), 25 PA2 (io), 26 PA3 (io), 27 VSS_4 (power), 28 VDD_4 (power), 29 PA4 (io), 30 PA5 (io), 31 PA6 (io), 32 PA7 (io), 33 PC4 (io), 34 PC5 (io), 35 PB0 (io), 36 PB1 (io), 37 PB2/BOOT1 (io), 38 PE7 (io), 39 PE8 (io), 40 PE9 (io), 41 PE10 (io), 42 PE11 (io), 43 PE12 (io), 44 PE13 (io), 45 PE14 (io), 46 PE15 (io), 47 PB10 (io), 48 PB11 (io), 49 VSS_1 (power), 50 VDD_1 (power), 51 PB12 (io), 52 PB13 (io), 53 PB14 (io), 54 PB15 (io), 55 PD8 (io), 56 PD9 (io), 57 PD10 (io), 58 PD11 (io), 59 PD12 (io), 60 PD13 (io), 61 PD14 (io), 62 PD15 (io), 63 PC6 (io), 64 PC7 (io), 65 PC8 (io), 66 PC9 (io), 67 PA8 (io), 68 PA9 (io), 69 PA10 (io), 70 PA11 (io), 71 PA12 (io), 72 PA13/JTMS/SWDIO (io), 73 NC, 74 VSS_2 (power), 75 VDD_2 (power), 76 PA14/JTCK/SWCLK (io), 77 PA15/JTDI (io), 78 PC10 (io), 79 PC11 (io), 80 PC12 (io), 81 PD0 (io), 82 PD1 (io), 83 PD2 (io), 84 PD3 (io), 85 PD4 (io), 86 PD5 (io), 87 PD6 (io), 88 PD7 (io), 89 PB3/JTDO (io), 90 PB4/JNTRST (io), 91 PB5 (io), 92 PB6 (io), 93 PB7 (io), 94 BOOT0 (in), 95 PB8 (io), 96 PB9 (io), 97 PE0 (io), 98 PE1 (io), 99 VSS_3 (power), 100 VDD_3 (power)
2 alternate drawings of the same symbol

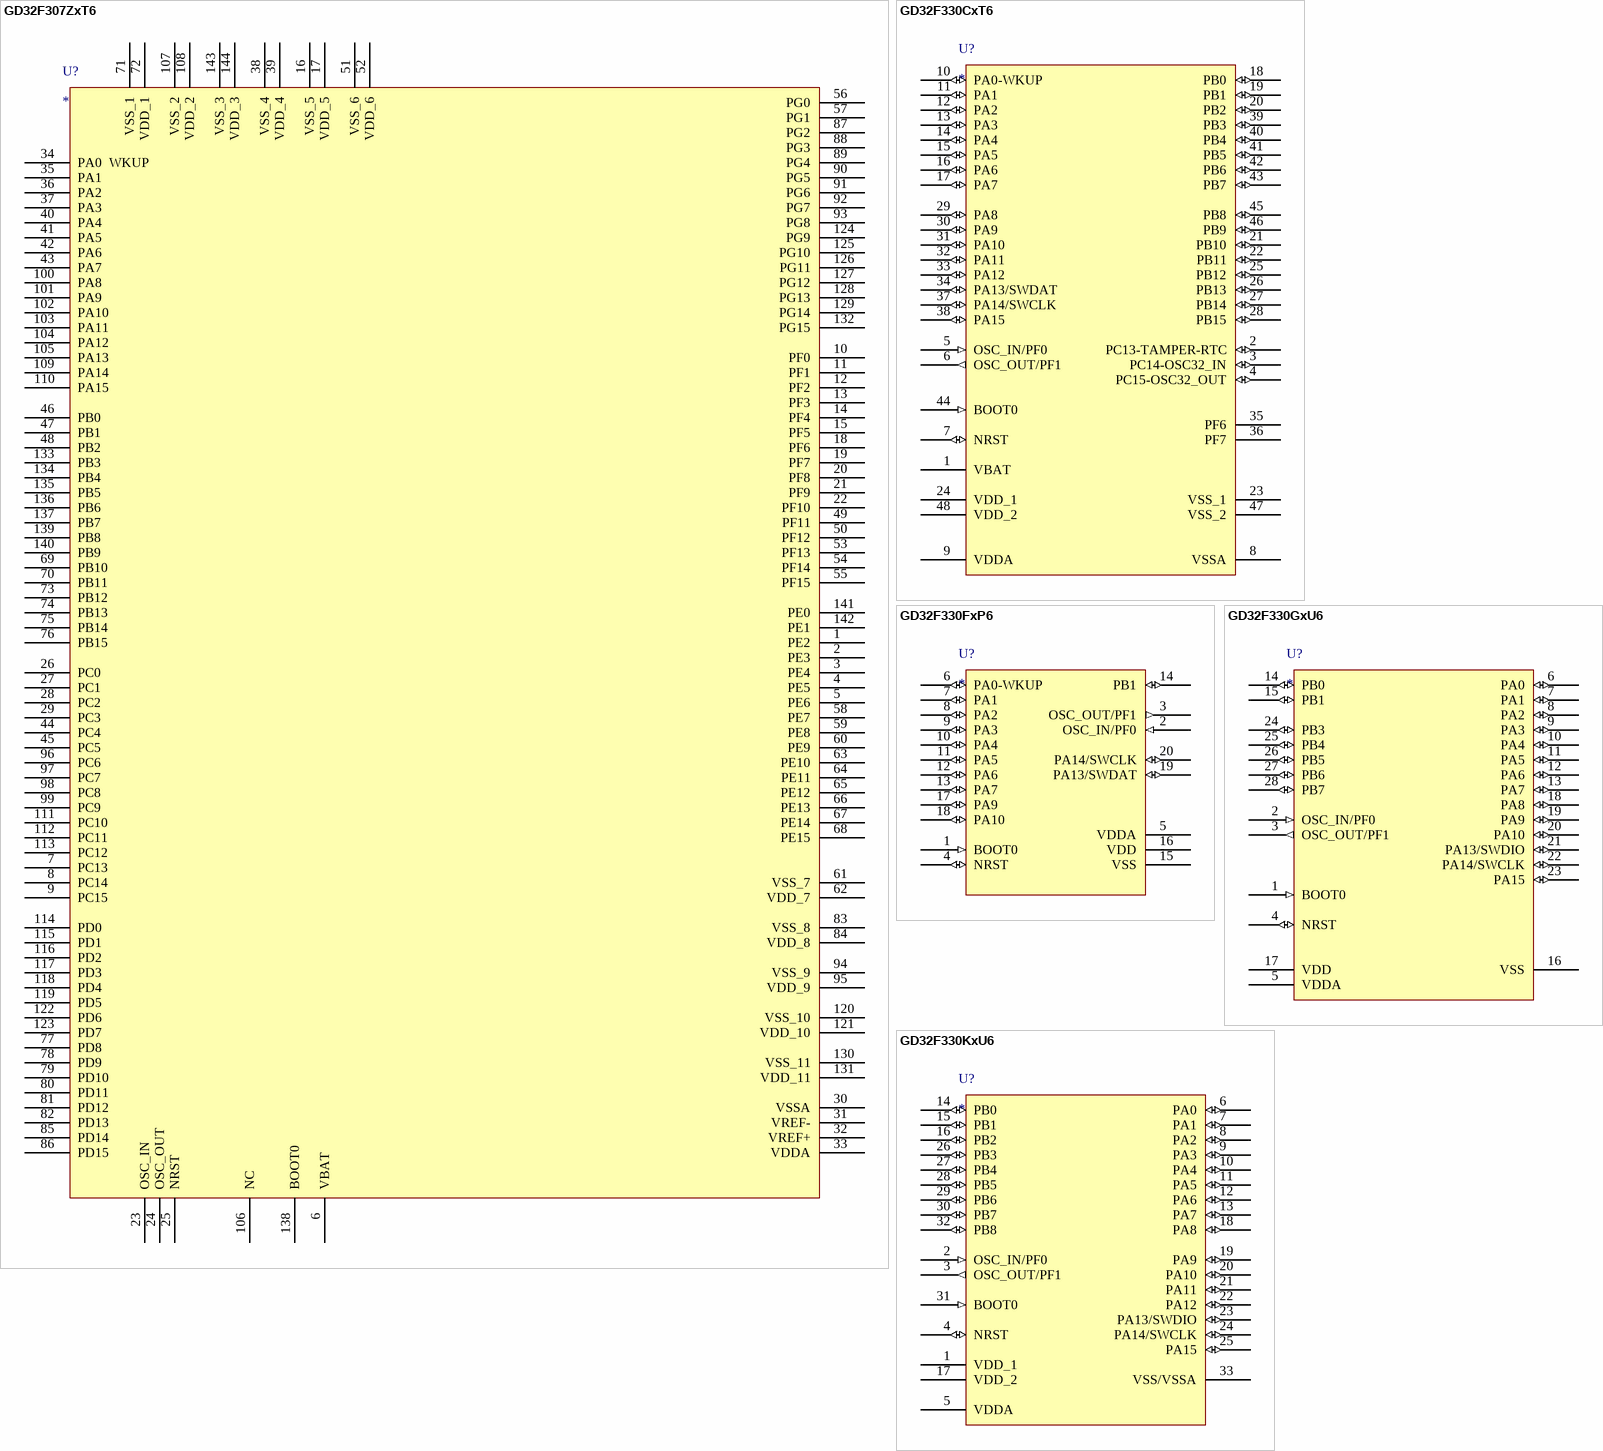
[diagram p22: symbols GD32F307ZxT6 to GD32F330KxU6]

## GD32F307ZxT6
designator U?
footprint LQFP144
pins: 1 PE2, 2 PE3, 3 PE4, 4 PE5, 5 PE6, 6 VBAT, 7 PC13, 8 PC14, 9 PC15, 10 PF0, 11 PF1, 12 PF2, 13 PF3, 14 PF4, 15 PF5, 16 VSS_5, 17 VDD_5, 18 PF6, 19 PF7, 20 PF8, 21 PF9, 22 PF10, 23 OSC_IN, 24 OSC_OUT, 25 NRST, 26 PC0, 27 PC1, 28 PC2, 29 PC3, 30 VSSA, 31 VREF-, 32 VREF+, 33 VDDA, 34 PA0  WKUP , 35 PA1, 36 PA2, 37 PA3 , 38 VSS_4, 39 VDD_4, 40 PA4, 41 PA5, 42 PA6, 43 PA7, 44 PC4, 45 PC5, 46 PB0, 47 PB1, 48 PB2, 49 PF11, 50 PF12, 51 VSS_6, 52 VDD_6, 53 PF13, 54 PF14, 55 PF15, 56 PG0, 57 PG1, 58 PE7, 59 PE8, 60 PE9, 61 VSS_7, 62 VDD_7, 63 PE10, 64 PE11, 65 PE12, 66 PE13, 67 PE14, 68 PE15, 69 PB10, 70 PB11, 71 VSS_1, 72 VDD_1, 73 PB12, 74 PB13, 75 PB14, 76 PB15, 77 PD8, 78 PD9, 79 PD10, 80 PD11, 81 PD12, 82 PD13, 83 VSS_8, 84 VDD_8, 85 PD14, 86 PD15, 87 PG2, 88 PG3, 89 PG4, 90 PG5, 91 PG6, 92 PG7, 93 PG8, 94 VSS_9, 95 VDD_9, 96 PC6, 97 PC7, 98 PC8, 99 PC9, 100 PA8, 101 PA9, 102 PA10, 103 PA11, 104 PA12, 105 PA13, 106 NC, 107 VSS_2, 108 VDD_2, 109 PA14, 110 PA15, 111 PC10, 112 PC11, 113 PC12, 114 PD0, 115 PD1, 116 PD2, 117 PD3, 118 PD4, 119 PD5, 120 VSS_10, 121 VDD_10, 122 PD6, 123 PD7, 124 PG9, 125 PG10, 126 PG11, 127 PG12, 128 PG13, 129 PG14, 130 VSS_11, 131 VDD_11, 132 PG15, 133 PB3, 134 PB4, 135 PB5, 136 PB6, 137 PB7, 138 BOOT0, 139 PB8, 140 PB9, 141 PE0, 142 PE1, 143 VSS_3, 144 VDD_3

## GD32F330CxT6
designator U?
footprint LQFP-48
pins: 1 VBAT (power), 2 PC13-TAMPER-RTC (io), 3 PC14-OSC32_IN (io), 4 PC15-OSC32_OUT (io), 5 OSC_IN/PF0 (in), 6 OSC_OUT/PF1 (out), 7 NRST (io), 8 VSSA (power), 9 VDDA (power), 10 PA0-WKUP (io), 11 PA1 (io), 12 PA2 (io), 13 PA3 (io), 14 PA4 (io), 15 PA5 (io), 16 PA6 (io), 17 PA7 (io), 18 PB0 (io), 19 PB1 (io), 20 PB2 (io), 21 PB10 (io), 22 PB11 (io), 23 VSS_1 (power), 24 VDD_1 (power), 25 PB12 (io), 26 PB13 (io), 27 PB14 (io), 28 PB15 (io), 29 PA8 (io), 30 PA9 (io), 31 PA10 (io), 32 PA11 (io), 33 PA12 (io), 34 PA13/SWDAT (io), 35 PF6 (power), 36 PF7 (power), 37 PA14/SWCLK (io), 38 PA15 (io), 39 PB3 (io), 40 PB4 (io), 41 PB5 (io), 42 PB6 (io), 43 PB7 (io), 44 BOOT0 (in), 45 PB8 (io), 46 PB9 (io), 47 VSS_2 (power), 48 VDD_2 (power)

## GD32F330FxP6
designator U?
pins: 1 BOOT0 (in), 2 OSC_IN/PF0 (in), 3 OSC_OUT/PF1 (out), 4 NRST (io), 5 VDDA (power), 6 PA0-WKUP (io), 7 PA1 (io), 8 PA2 (io), 9 PA3 (io), 10 PA4 (io), 11 PA5 (io), 12 PA6 (io), 13 PA7 (io), 14 PB1 (io), 15 VSS (power), 16 VDD (power), 17 PA9 (io), 18 PA10 (io), 19 PA13/SWDAT (io), 20 PA14/SWCLK (io)

## GD32F330GxU6
designator U?
footprint QFN28
pins: 1 BOOT0 (in), 2 OSC_IN/PF0 (in), 3 OSC_OUT/PF1 (out), 4 NRST (io), 5 VDDA (power), 6 PA0 (io), 7 PA1 (io), 8 PA2 (io), 9 PA3 (io), 10 PA4 (io), 11 PA5 (io), 12 PA6 (io), 13 PA7 (io), 14 PB0 (io), 15 PB1 (io), 16 VSS (power), 17 VDD (power), 18 PA8 (io), 19 PA9 (io), 20 PA10 (io), 21 PA13/SWDIO (io), 22 PA14/SWCLK (io), 23 PA15 (io), 24 PB3 (io), 25 PB4 (io), 26 PB5 (io), 27 PB6 (io), 28 PB7 (io)

## GD32F330KxU6
designator U?
footprint qfn28
footprint QFN32 (Footprint not found)
pins: 1 VDD_1 (power), 2 OSC_IN/PF0 (in), 3 OSC_OUT/PF1 (out), 4 NRST (io), 5 VDDA (power), 6 PA0 (io), 7 PA1 (io), 8 PA2 (io), 9 PA3 (io), 10 PA4 (io), 11 PA5 (io), 12 PA6 (io), 13 PA7 (io), 14 PB0 (io), 15 PB1 (io), 16 PB2 (io), 17 VDD_2 (power), 18 PA8 (io), 19 PA9 (io), 20 PA10 (io), 21 PA11 (io), 22 PA12 (io), 23 PA13/SWDIO (io), 24 PA14/SWCLK (io), 25 PA15 (io), 26 PB3 (io), 27 PB4 (io), 28 PB5 (io), 29 PB6 (io), 30 PB7 (io), 31 BOOT0 (in), 32 PB8 (io), 33 VSS/VSSA (power)

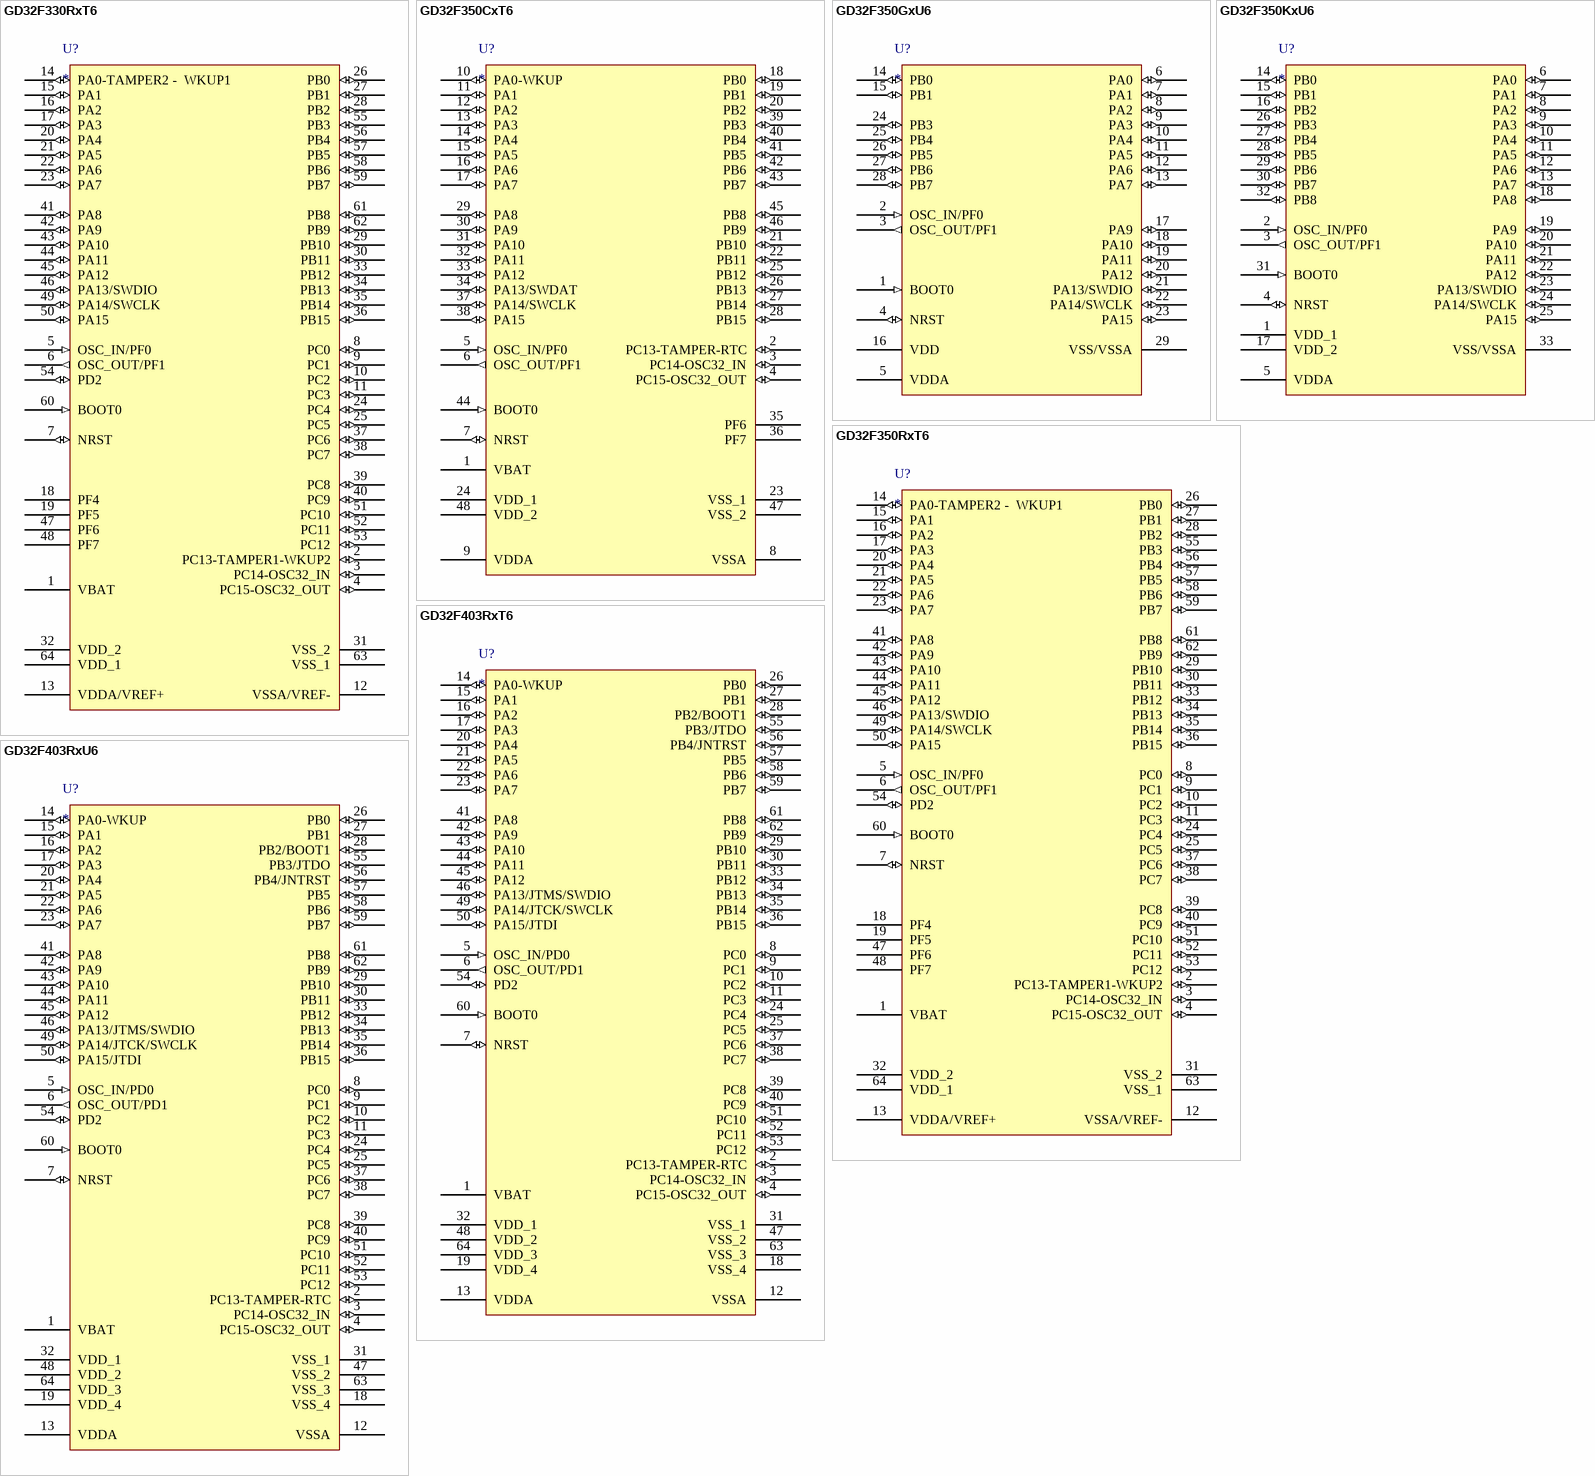
[diagram p23: symbols GD32F330RxT6 to GD32F403RxU6]

## GD32F330RxT6
designator U?
footprint LQFP-64
pins: 1 VBAT (power), 2 PC13-TAMPER1-WKUP2 (io), 3 PC14-OSC32_IN (io), 4 PC15-OSC32_OUT (io), 5 OSC_IN/PF0 (in), 6 OSC_OUT/PF1 (out), 7 NRST (io), 8 PC0 (io), 9 PC1 (io), 10 PC2 (io), 11 PC3 (io), 12 VSSA/VREF- (power), 13 VDDA/VREF+ (power), 14 PA0-TAMPER2 -  WKUP1 (io), 15 PA1 (io), 16 PA2 (io), 17 PA3 (io), 18 PF4 (power), 19 PF5 (power), 20 PA4 (io), 21 PA5 (io), 22 PA6 (io), 23 PA7 (io), 24 PC4 (io), 25 PC5 (io), 26 PB0 (io), 27 PB1 (io), 28 PB2 (io), 29 PB10 (io), 30 PB11 (io), 31 VSS_2 (power), 32 VDD_2 (power), 33 PB12 (io), 34 PB13 (io), 35 PB14 (io), 36 PB15 (io), 37 PC6 (io), 38 PC7 (io), 39 PC8 (io), 40 PC9 (io), 41 PA8 (io), 42 PA9 (io), 43 PA10 (io), 44 PA11 (io), 45 PA12 (io), 46 PA13/SWDIO (io), 47 PF6 (power), 48 PF7 (power), 49 PA14/SWCLK (io), 50 PA15 (io), 51 PC10 (io), 52 PC11 (io), 53 PC12 (io), 54 PD2 (io), 55 PB3 (io), 56 PB4 (io), 57 PB5 (io), 58 PB6 (io), 59 PB7 (io), 60 BOOT0 (in), 61 PB8 (io), 62 PB9 (io), 63 VSS_1 (power), 64 VDD_1 (power)

## GD32F350CxT6
designator U?
footprint LQFP-48
pins: 1 VBAT (power), 2 PC13-TAMPER-RTC (io), 3 PC14-OSC32_IN (io), 4 PC15-OSC32_OUT (io), 5 OSC_IN/PF0 (in), 6 OSC_OUT/PF1 (out), 7 NRST (io), 8 VSSA (power), 9 VDDA (power), 10 PA0-WKUP (io), 11 PA1 (io), 12 PA2 (io), 13 PA3 (io), 14 PA4 (io), 15 PA5 (io), 16 PA6 (io), 17 PA7 (io), 18 PB0 (io), 19 PB1 (io), 20 PB2 (io), 21 PB10 (io), 22 PB11 (io), 23 VSS_1 (power), 24 VDD_1 (power), 25 PB12 (io), 26 PB13 (io), 27 PB14 (io), 28 PB15 (io), 29 PA8 (io), 30 PA9 (io), 31 PA10 (io), 32 PA11 (io), 33 PA12 (io), 34 PA13/SWDAT (io), 35 PF6 (power), 36 PF7 (power), 37 PA14/SWCLK (io), 38 PA15 (io), 39 PB3 (io), 40 PB4 (io), 41 PB5 (io), 42 PB6 (io), 43 PB7 (io), 44 BOOT0 (in), 45 PB8 (io), 46 PB9 (io), 47 VSS_2 (power), 48 VDD_2 (power)

## GD32F350GxU6
designator U?
footprint qfn28
pins: 1 BOOT0 (in), 2 OSC_IN/PF0 (in), 3 OSC_OUT/PF1 (out), 4 NRST (io), 5 VDDA (power), 6 PA0 (io), 7 PA1 (io), 8 PA2 (io), 9 PA3 (io), 10 PA4 (io), 11 PA5 (io), 12 PA6 (io), 13 PA7 (io), 14 PB0 (io), 15 PB1 (io), 16 VDD (power), 17 PA9 (io), 18 PA10 (io), 19 PA11 (io), 20 PA12 (io), 21 PA13/SWDIO (io), 22 PA14/SWCLK (io), 23 PA15 (io), 24 PB3 (io), 25 PB4 (io), 26 PB5 (io), 27 PB6 (io), 28 PB7 (io), 29 VSS/VSSA (power)

## GD32F350KxU6
designator U?
footprint qfn28
footprint QFN32 (Footprint not found)
pins: 1 VDD_1 (power), 2 OSC_IN/PF0 (in), 3 OSC_OUT/PF1 (out), 4 NRST (io), 5 VDDA (power), 6 PA0 (io), 7 PA1 (io), 8 PA2 (io), 9 PA3 (io), 10 PA4 (io), 11 PA5 (io), 12 PA6 (io), 13 PA7 (io), 14 PB0 (io), 15 PB1 (io), 16 PB2 (io), 17 VDD_2 (power), 18 PA8 (io), 19 PA9 (io), 20 PA10 (io), 21 PA11 (io), 22 PA12 (io), 23 PA13/SWDIO (io), 24 PA14/SWCLK (io), 25 PA15 (io), 26 PB3 (io), 27 PB4 (io), 28 PB5 (io), 29 PB6 (io), 30 PB7 (io), 31 BOOT0 (in), 32 PB8 (io), 33 VSS/VSSA (power)

## GD32F350RxT6
designator U?
footprint LQFP-64
pins: 1 VBAT (power), 2 PC13-TAMPER1-WKUP2 (io), 3 PC14-OSC32_IN (io), 4 PC15-OSC32_OUT (io), 5 OSC_IN/PF0 (in), 6 OSC_OUT/PF1 (out), 7 NRST (io), 8 PC0 (io), 9 PC1 (io), 10 PC2 (io), 11 PC3 (io), 12 VSSA/VREF- (power), 13 VDDA/VREF+ (power), 14 PA0-TAMPER2 -  WKUP1 (io), 15 PA1 (io), 16 PA2 (io), 17 PA3 (io), 18 PF4 (power), 19 PF5 (power), 20 PA4 (io), 21 PA5 (io), 22 PA6 (io), 23 PA7 (io), 24 PC4 (io), 25 PC5 (io), 26 PB0 (io), 27 PB1 (io), 28 PB2 (io), 29 PB10 (io), 30 PB11 (io), 31 VSS_2 (power), 32 VDD_2 (power), 33 PB12 (io), 34 PB13 (io), 35 PB14 (io), 36 PB15 (io), 37 PC6 (io), 38 PC7 (io), 39 PC8 (io), 40 PC9 (io), 41 PA8 (io), 42 PA9 (io), 43 PA10 (io), 44 PA11 (io), 45 PA12 (io), 46 PA13/SWDIO (io), 47 PF6 (power), 48 PF7 (power), 49 PA14/SWCLK (io), 50 PA15 (io), 51 PC10 (io), 52 PC11 (io), 53 PC12 (io), 54 PD2 (io), 55 PB3 (io), 56 PB4 (io), 57 PB5 (io), 58 PB6 (io), 59 PB7 (io), 60 BOOT0 (in), 61 PB8 (io), 62 PB9 (io), 63 VSS_1 (power), 64 VDD_1 (power)

## GD32F403RxT6
designator U?
pins: 1 VBAT (power), 2 PC13-TAMPER-RTC (io), 3 PC14-OSC32_IN (io), 4 PC15-OSC32_OUT (io), 5 OSC_IN/PD0 (in), 6 OSC_OUT/PD1 (out), 7 NRST (io), 8 PC0 (io), 9 PC1 (io), 10 PC2 (io), 11 PC3 (io), 12 VSSA (power), 13 VDDA (power), 14 PA0-WKUP (io), 15 PA1 (io), 16 PA2 (io), 17 PA3 (io), 18 VSS_4 (power), 19 VDD_4 (power), 20 PA4 (io), 21 PA5 (io), 22 PA6 (io), 23 PA7 (io), 24 PC4 (io), 25 PC5 (io), 26 PB0 (io), 27 PB1 (io), 28 PB2/BOOT1 (io), 29 PB10 (io), 30 PB11 (io), 31 VSS_1 (power), 32 VDD_1 (power), 33 PB12 (io), 34 PB13 (io), 35 PB14 (io), 36 PB15 (io), 37 PC6 (io), 38 PC7 (io), 39 PC8 (io), 40 PC9 (io), 41 PA8 (io), 42 PA9 (io), 43 PA10 (io), 44 PA11 (io), 45 PA12 (io), 46 PA13/JTMS/SWDIO (io), 47 VSS_2 (power), 48 VDD_2 (power), 49 PA14/JTCK/SWCLK (io), 50 PA15/JTDI (io), 51 PC10 (io), 52 PC11 (io), 53 PC12 (io), 54 PD2 (io), 55 PB3/JTDO (io), 56 PB4/JNTRST (io), 57 PB5 (io), 58 PB6 (io), 59 PB7 (io), 60 BOOT0 (in), 61 PB8 (io), 62 PB9 (io), 63 VSS_3 (power), 64 VDD_3 (power)

## GD32F403RxU6
designator U?
footprint QFN64 (8*8 0.4pitch)
pins: 1 VBAT (power), 2 PC13-TAMPER-RTC (io), 3 PC14-OSC32_IN (io), 4 PC15-OSC32_OUT (io), 5 OSC_IN/PD0 (in), 6 OSC_OUT/PD1 (out), 7 NRST (io), 8 PC0 (io), 9 PC1 (io), 10 PC2 (io), 11 PC3 (io), 12 VSSA (power), 13 VDDA (power), 14 PA0-WKUP (io), 15 PA1 (io), 16 PA2 (io), 17 PA3 (io), 18 VSS_4 (power), 19 VDD_4 (power), 20 PA4 (io), 21 PA5 (io), 22 PA6 (io), 23 PA7 (io), 24 PC4 (io), 25 PC5 (io), 26 PB0 (io), 27 PB1 (io), 28 PB2/BOOT1 (io), 29 PB10 (io), 30 PB11 (io), 31 VSS_1 (power), 32 VDD_1 (power), 33 PB12 (io), 34 PB13 (io), 35 PB14 (io), 36 PB15 (io), 37 PC6 (io), 38 PC7 (io), 39 PC8 (io), 40 PC9 (io), 41 PA8 (io), 42 PA9 (io), 43 PA10 (io), 44 PA11 (io), 45 PA12 (io), 46 PA13/JTMS/SWDIO (io), 47 VSS_2 (power), 48 VDD_2 (power), 49 PA14/JTCK/SWCLK (io), 50 PA15/JTDI (io), 51 PC10 (io), 52 PC11 (io), 53 PC12 (io), 54 PD2 (io), 55 PB3/JTDO (io), 56 PB4/JNTRST (io), 57 PB5 (io), 58 PB6 (io), 59 PB7 (io), 60 BOOT0 (in), 61 PB8 (io), 62 PB9 (io), 63 VSS_3 (power), 64 VDD_3 (power)

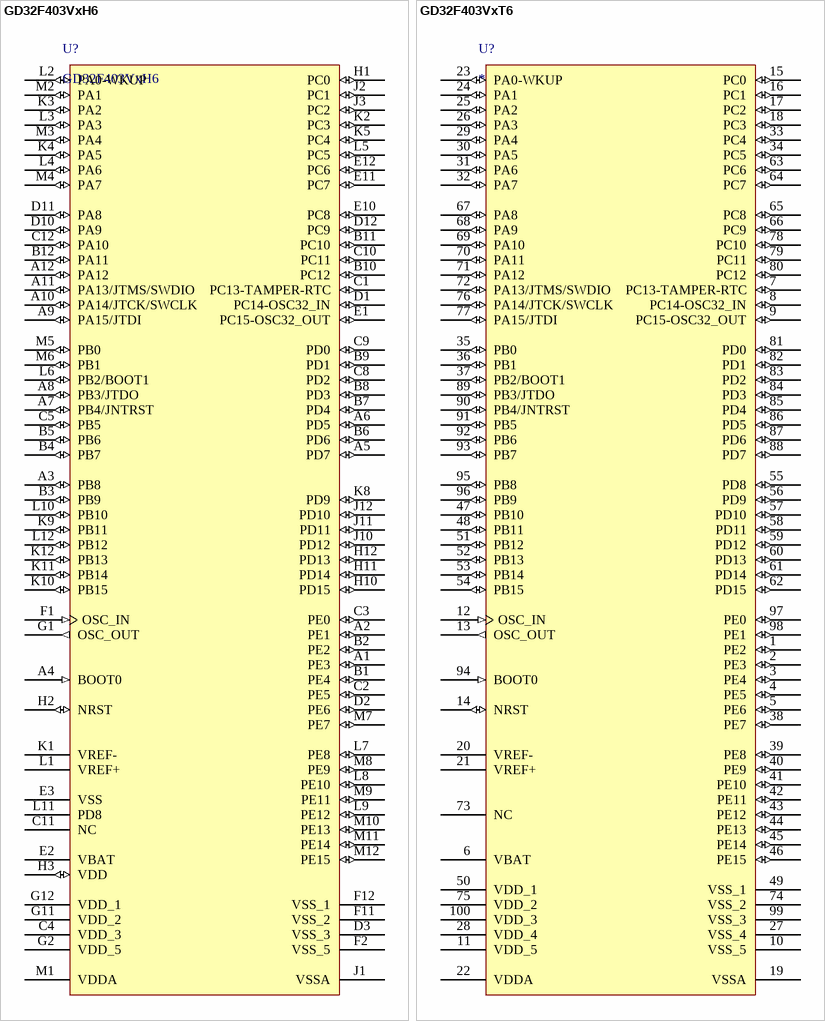
[diagram p24: symbols GD32F403VxH6 to GD32F403VxT6]